# Altium schematic symbol library Main.SCHLIB: 119 symbols
Pins are listed as number, name and electrical type; pins without a type are passive.

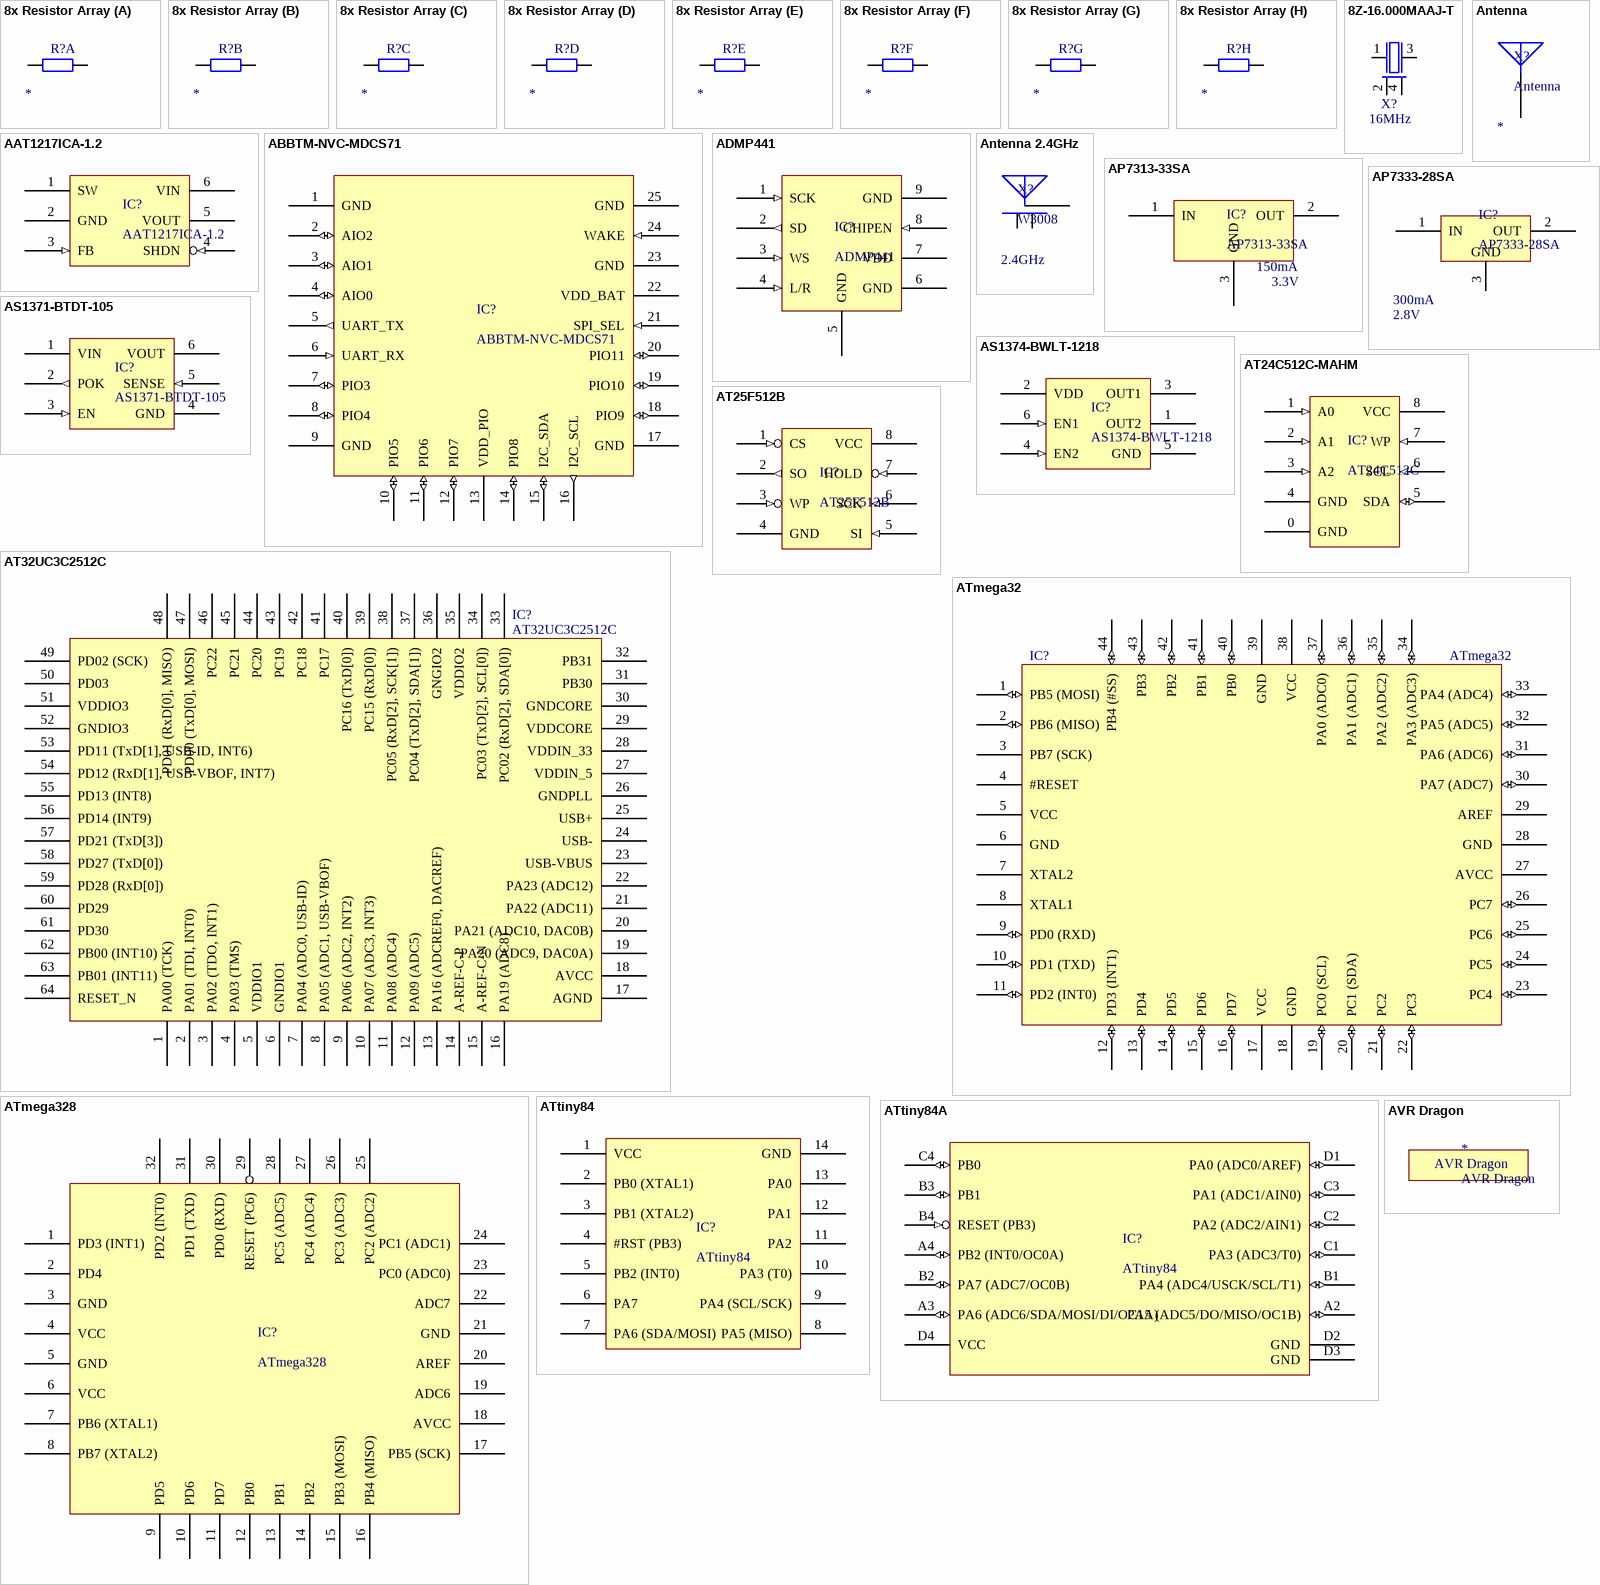
[diagram p0: symbols 8x Resistor Array to AVR Dragon]

## 8x Resistor Array
designator R?  (value not drawn)
Tolerance: *; Value: *
footprint 8x Resistor-Array
part A pins: A1 1, A2 1
part B pins: B1 1, B2 1
part C pins: C1 1, C2 1
part D pins: D1 1, D2 1
part E pins: E1 1, E2 1
part F pins: F1 1, F2 1
part G pins: G1 1, G2 1
part H pins: H1 1, H2 1

## 8Z-16.000MAAJ-T
designator X?  Frequency: 16MHz  (hidden comment: 8Z-16.000MAAJ-T)
Crystal 16MHz; Supplier 1: Mouser; Supplier Part Number 1: 717-8Z-16.000MAAJ-T
footprint CRYSTAL 2MM x 2.5mm
pins: 1, 2 3, 3 2, 4 3

## AAT1217ICA-1.2
designator IC?
Boost Converter; Input Voltage: 1V...5.5V; Output Voltage: 2.5V...5.5V; Current: 100mA - 800mA; Digi-Key: 863-1495-1-ND
footprint SOT-23 (6-pin)
pins: 1 SW (power), 2 GND (power), 3 FB (in), 4 SHDN (in), 5 VOUT (power), 6 VIN (power)

## ABBTM-NVC-MDCS71
designator IC?
Bluetooth v4.0 Module; Voltage: 1.8V...3.6V
footprint Bluetooth v4.0 Mod
pins: 1 GND (power), 2 AIO2 (io), 3 AIO1 (io), 4 AIO0 (io), 5 UART_TX (out), 6 UART_RX (in), 7 PIO3 (io), 8 PIO4 (io), 9 GND (power), 10 PIO5 (io), 11 PIO6 (io), 12 PIO7 (io), 13 VDD_PIO (power), 14 PIO8 (io), 15 I2C_SDA (io), 16 I2C_SCL (out), 17 GND (power), 18 PIO9 (io), 19 PIO10 (io), 20 PIO11 (io), 21 SPI_SEL (in), 22 VDD_BAT (power), 23 GND (power), 24 WAKE (in), 25 GND (power)

## ADMP441
designator IC?
I²S Microphone
footprint ADMP441
pins: 1 SCK (in), 2 SD (out), 3 WS (in), 4 L/R (in), 5 GND, 6 GND (power), 7 VDD (power), 8 CHIPEN (in), 9 GND (power)

## Antenna
designator X?
Frequency: *
pins: 1

## Antenna 2.4GHz
designator X?, comment W3008  Frequency: 2.4GHz
Antenna 2.4GHz; Manufacturer: Pulse Electronics Coorp.; Compliance: Bluetooth; Digi-Key: 553-1530-1-ND
footprint Antenna 3.2x1.6mm (W3008)
pins: 1, 2 (power), 3 (power)

## AP7313-33SA
designator IC?  Current: 150mA  Output Voltage: 3.3V
Low Dropout Regulator 3.3V, 150mA; Manufacturer: Diodes Inc.; Input Voltage: 3.5V...6V; Digi-Key: AP7313-33SAG-7DICT-ND
footprint SOT23
pins: 1 IN (power), 2 OUT (power), 3 GND (power)

## AP7333-28SA
designator IC?  Current: 300mA  Voltage: 2.8V
Low Dropout Regulator 2.8V, 300mA; Manufacturer: Diodes Inc.; Dropout Voltage: 300mV; Input Voltage: 2V ... 6V; Digi-Key: AP7333-28SAG-7DICT-ND
footprint SOT23
pins: 1 IN (power), 2 OUT (power), 3 GND (power)

## AS1371-BTDT-105
designator IC?
Current: 400mA; Supplier 1: Digi-Key; Supplier Part Number 1: AS1371-BTDT-105CT-ND
footprint 0.8-mm × 0.8-mm WCSP
footprint TDFN6
pins: 1 VIN (power), 2 POK (out), 3 EN (in), 4 GND (power), 5 SENSE (in), 6 VOUT (power)

## AS1374-BWLT-1218
designator IC?
Supplier 1: Digi-Key; Supplier Part Number 1: AS1374-BWLT-1218CT-ND
footprint 6-UFBGA
pins: 1 OUT2 (power), 2 VDD (power), 3 OUT1 (power), 4 EN2 (in), 5 GND (power), 6 EN1 (in)

## AT24C512C-MAHM
designator IC?, comment AT24C512C
512kbit I2C EEPROM; Manufacturer: Atmel; Voltage: 1.7V - 3.6V; Speed: 400kHz (1.7V), 1MHz (2.5V); Density: 512kbit (65536 Bytes); Digi-Key: AT24C512C-MAHM-TCT-ND
footprint UDFN-8 (3x2mm)
pins: 0 GND, 1 A0 (in), 2 A1 (in), 3 A2 (in), 4 GND (power), 5 SDA (io), 6 SCL (in), 7 WP (in), 8 VCC (power)

## AT25F512B
designator IC?
512Kbit SPI Flash; Voltage: 2.7V...3.6V; Memory Density: 512Kbit; Digi-Key: AT25F512B-MAH-TADCT-ND
footprint UDFN-8 (3x2mm)
pins: 1 CS (in), 2 SO (out), 3 WP (in), 4 GND (power), 5 SI (in), 6 SCK (in), 7 HOLD (in), 8 VCC (power)

## AT32UC3C2512C
designator IC?
32-Bit AVR Microcontroller; Core: AVR32; Flash: 512kB; RAM: 64kB; Speed: 50MHz; Supplier 1: Digi-Key; Supplier Part Number 1: AT32UC3C2512C-Z2ZRCT-ND
footprint TQFP64
pins: 1 PA00 (TCK), 2 PA01 (TDI, INT0), 3 PA02 (TDO, INT1), 4 PA03 (TMS), 5 VDDIO1, 6 GNDIO1, 7 PA04 (ADC0, USB-ID), 8 PA05 (ADC1, USB-VBOF), 9 PA06 (ADC2, INT2), 10 PA07 (ADC3, INT3), 11 PA08 (ADC4), 12 PA09 (ADC5), 13 PA16 (ADCREF0, DACREF), 14 A-REF-C-P, 15 A-REF-C-N, 16 PA19 (ADC8), 17 AGND, 18 AVCC, 19 PA20 (ADC9, DAC0A), 20 PA21 (ADC10, DAC0B), 21 PA22 (ADC11), 22 PA23 (ADC12), 23 USB-VBUS, 24 USB-, 25 USB+, 26 GNDPLL, 27 VDDIN_5, 28 VDDIN_33, 29 VDDCORE, 30 GNDCORE, 31 PB30, 32 PB31, 33 PC02 (RxD[2], SDA[0]), 34 PC03 (TxD[2], SCL[0]), 35 VDDIO2, 36 GNGIO2, 37 PC04 (TxD[2], SDA[1]), 38 PC05 (RxD[2], SCK[1]), 39 PC15 (RxD[0]), 40 PC16 (TxD[0]), 41 PC17, 42 PC18, 43 PC19, 44 PC20, 45 PC21, 46 PC22, 47 PD00 (TxD[0], MOSI), 48 PD01 (RxD[0], MISO), 49 PD02 (SCK), 50 PD03, 51 VDDIO3, 52 GNDIO3, 53 PD11 (TxD[1], USB-ID, INT6), 54 PD12 (RxD[1], USB-VBOF, INT7), 55 PD13 (INT8), 56 PD14 (INT9), 57 PD21 (TxD[3]), 58 PD27 (TxD[0]), 59 PD28 (RxD[0]), 60 PD29, 61 PD30, 62 PB00 (INT10), 63 PB01 (INT11), 64 RESET_N

## ATmega32
designator IC?
8-Bit AVR Microcontroller; Flash: 32kB; RAM: 2kB; EEPROM: 1024B; Speed: 16MHz; Supplier 1: Mouser; Supplier Part Number 1: 556-ATMEGA32A-AU
footprint TQFP44
pins: 1 PB5 (MOSI) (io), 2 PB6 (MISO) (io), 3 PB7 (SCK), 4 #RESET, 5 VCC (power), 6 GND (power), 7 XTAL2, 8 XTAL1, 9 PD0 (RXD) (io), 10 PD1 (TXD) (io), 11 PD2 (INT0) (io), 12 PD3 (INT1) (io), 13 PD4 (io), 14 PD5 (io), 15 PD6 (io), 16 PD7 (io), 17 VCC (power), 18 GND (power), 19 PC0 (SCL) (io), 20 PC1 (SDA) (io), 21 PC2 (io), 22 PC3 (io), 23 PC4 (io), 24 PC5 (io), 25 PC6 (io), 26 PC7 (io), 27 AVCC (power), 28 GND (power), 29 AREF (power), 30 PA7 (ADC7) (io), 31 PA6 (ADC6) (io), 32 PA5 (ADC5) (io), 33 PA4 (ADC4) (io), 34 PA3 (ADC3) (io), 35 PA2 (ADC2) (io), 36 PA1 (ADC1) (io), 37 PA0 (ADC0) (io), 38 VCC (power), 39 GND (power), 40 PB0 (io), 41 PB1 (io), 42 PB2 (io), 43 PB3 (io), 44 PB4 (#SS) (io)

## ATmega328
designator IC?
8-Bit AVR Microcontroller; Speed: 4MHz @ 1.8V, 10MHz @ 2.7V, 20MHz @  4.5V; RAM: 2kB; EEPROM: 1kB; Flash: 32kB; Digi-Key: ATMEGA88PA-AURCT-ND
footprint TQFP32
pins: 1 PD3 (INT1), 2 PD4, 3 GND, 4 VCC, 5 GND, 6 VCC, 7 PB6 (XTAL1), 8 PB7 (XTAL2), 9 PD5, 10 PD6, 11 PD7, 12 PB0, 13 PB1, 14 PB2, 15 PB3 (MOSI), 16 PB4 (MISO), 17 PB5 (SCK), 18 AVCC, 19 ADC6, 20 AREF, 21 GND, 22 ADC7, 23 PC0 (ADC0), 24 PC1 (ADC1), 25 PC2 (ADC2), 26 PC3 (ADC3), 27 PC4 (ADC4), 28 PC5 (ADC5), 29 RESET (PC6), 30 PD0 (RXD), 31 PD1 (TXD), 32 PD2 (INT0)

## ATtiny84
designator IC?
8-Bit AVR Microcontroller; Flash: 8kB; RAM: 512B; Speed: 16MHz; EEPROM: 512B
footprint SOIC14
pins: 1 VCC, 2 PB0 (XTAL1), 3 PB1 (XTAL2), 4 #RST (PB3), 5 PB2 (INT0), 6 PA7, 7 PA6 (SDA/MOSI), 8 PA5 (MISO), 9 PA4 (SCL/SCK), 10 PA3 (T0), 11 PA2, 12 PA1, 13 PA0, 14 GND

## ATtiny84A
designator IC?, comment ATtiny84
footprint UFBGA15
pins: A2 PA5 (ADC5/DO/MISO/OC1B) (io), A3 PA6 (ADC6/SDA/MOSI/DI/OC1A) (io), A4 PB2 (INT0/OC0A) (io), B1 PA4 (ADC4/USCK/SCL/T1) (io), B2 PA7 (ADC7/OC0B) (io), B3 PB1 (io), B4 RESET (PB3) (in), C1 PA3 (ADC3/T0) (io), C2 PA2 (ADC2/AIN1) (io), C3 PA1 (ADC1/AIN0) (io), C4 PB0 (io), D1 PA0 (ADC0/AREF) (io), D2 GND (power), D3 GND (power), D4 VCC (power)

## AVR Dragon
designator *  (graphical)
AVR Programmer; Supplier 1: Mouser; Supplier Part Number 1: 556-ATAVRDRAGON

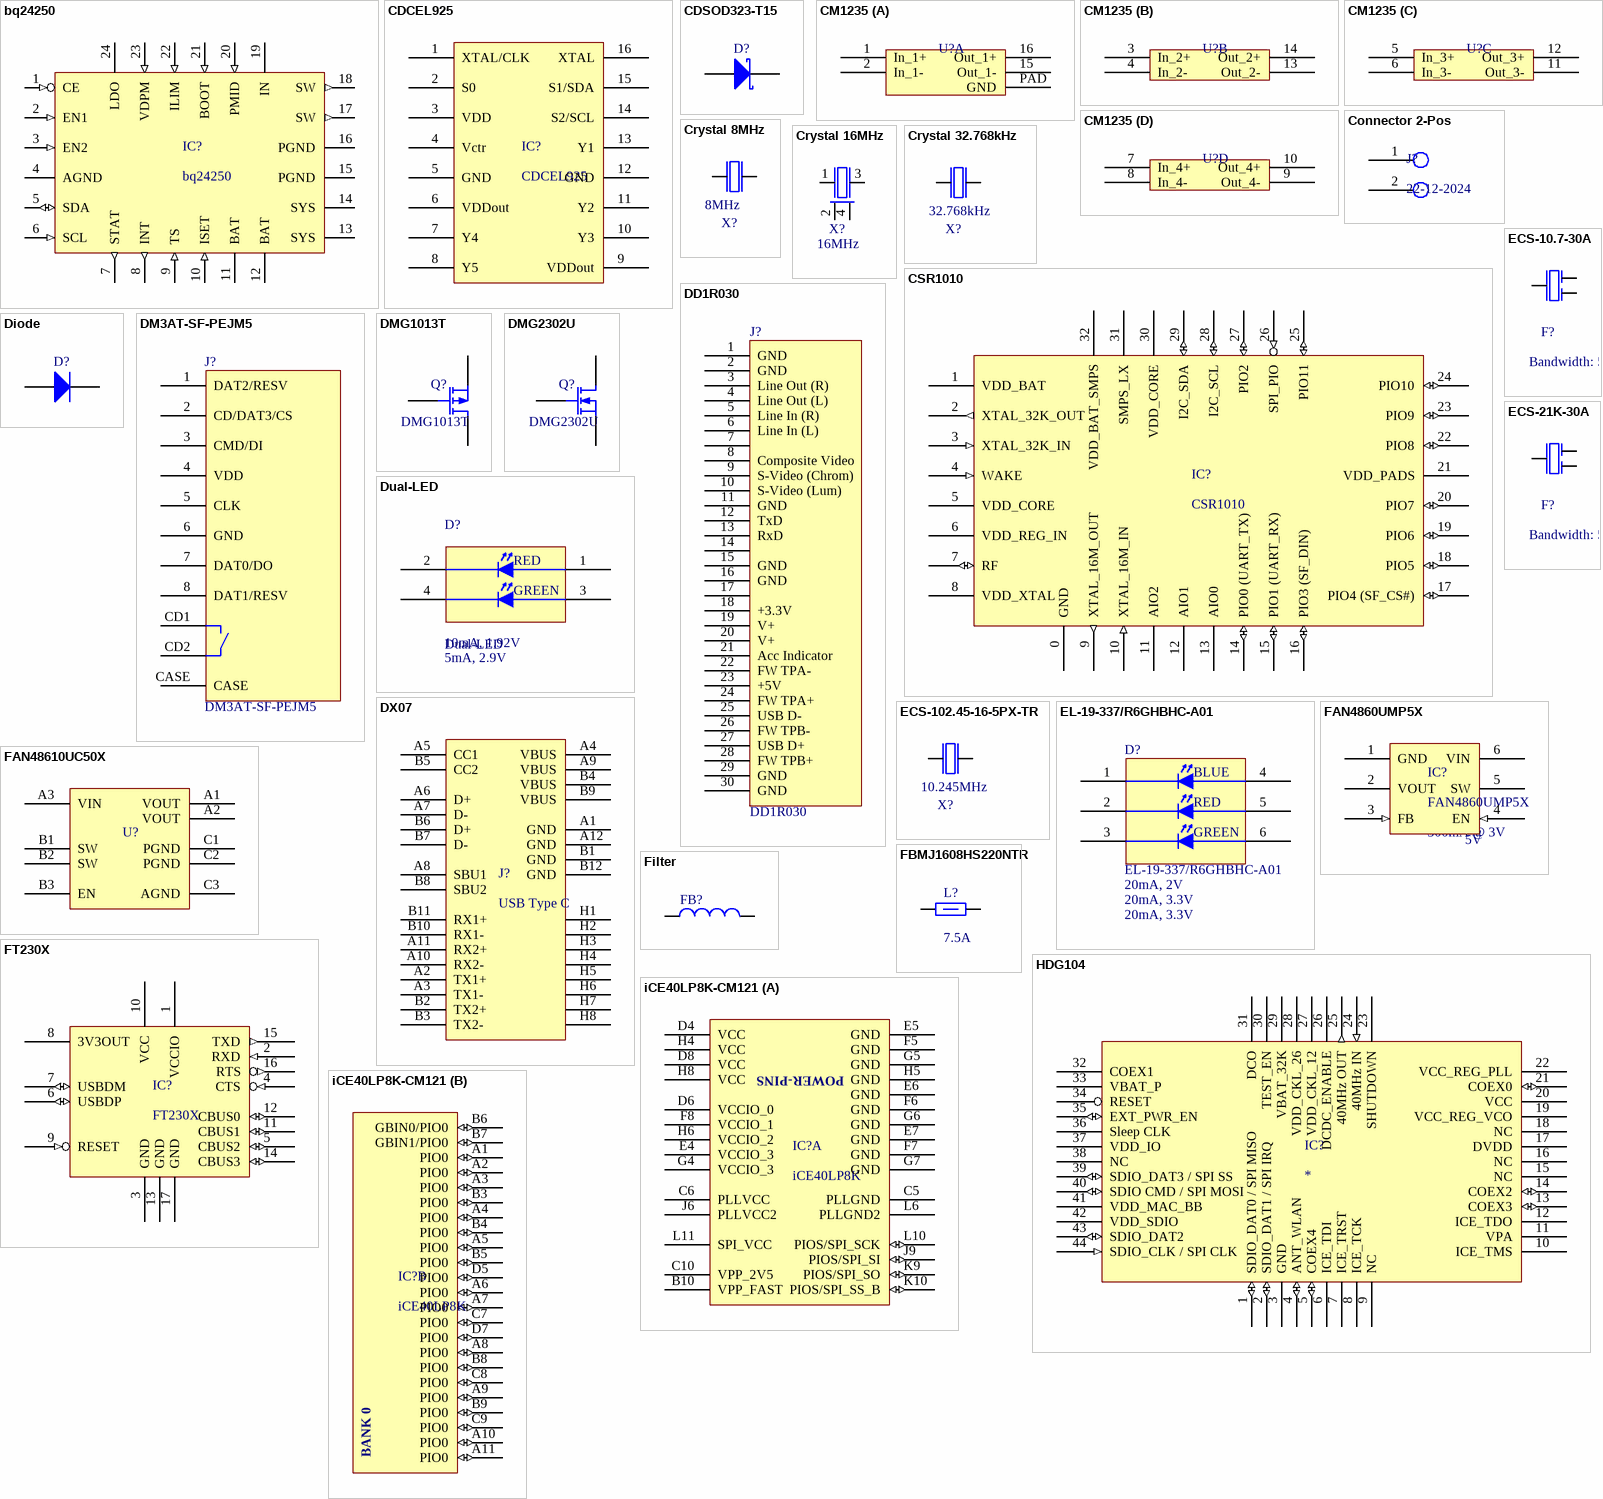
[diagram p1: symbols bq24250 to iCE40LP8K-CM121]

## bq24250
designator IC?
LiPo Chargering Regulator with Step-Down Converter; Max Charging Current: 2A; Digi-Key: 296-36446-1-ND
footprint QFN-24 (4x4mm)
pins: 1 CE (in), 2 EN1 (in), 3 EN2 (in), 4 AGND (power), 5 SDA (io), 6 SCL (in), 7 STAT (out), 8 INT (out), 9 TS (in), 10 ISET (in), 11 BAT (power), 12 BAT (power), 13 SYS (power), 14 SYS (power), 15 PGND (power), 16 PGND (power), 17 SW (out), 18 SW (out), 19 IN (power), 20 PMID (in), 21 BOOT (in), 22 ILIM (in), 23 VDPM (in), 24 LDO (power)

## CDCEL925
designator IC?
Dual PLL 230MHz; Voltage: 1.8V; VCO freq: 80MHz - 230MHz; Reference Crystal: 8MHz - 32MHz; Digi-Key: 296-22882-5-ND
footprint TSSOP16
pins: 1 XTAL/CLK, 2 S0, 3 VDD, 4 Vctr, 5 GND, 6 VDDout, 7 Y4, 8 Y5, 9 VDDout, 10 Y3, 11 Y2, 12 GND, 13 Y1, 14 S2/SCL, 15 S1/SDA, 16 XTAL

## CDSOD323-T15
designator D?  (value not drawn)
Schottky Diode; Published: 8-Jun-2000; LatestRevisionDate: 17-Jul-2002; LatestRevisionNote: Re-released for DXP Platform.; PackageReference: SMB; Publisher: Altium Limited; PackageDescription: DO-214-AA/SMB; 2 C-Bend Leads; Body 5.3 x 3.6 mm, inc. leads (LxW); Code_JEDEC: DO-214-AA; Supplier 1: Mouser; Supplier Part Number 1: 652-CDSOD323-T15
simulation model SKYDIODE (Diode)
signal-integrity model D Schottky
footprint 0805 (D); pin to pad 1>A 2>K
footprint 1.4mm x 1.9mm (D); pin to pad 1>A 2>K
pins: 1 A, 2 K

## CM1235
designator U?  (value not drawn)
ESD Protection; Max Voltage: 5.5V; Supplier 1: Digi-Key; Supplier Part Number 1: CM1235-08DEOSCT-ND
footprint WDFN-16 (4mmx1.7mm)
part A pins: 1 In_1+, 2 In_1-, 15 Out_1-, 16 Out_1+, PAD GND (power)
part B pins: 3 In_2+, 4 In_2-, 13 Out_2-, 14 Out_2+
part C pins: 5 In_3+, 6 In_3-, 11 Out_3-, 12 Out_3+
part D pins: 7 In_4+, 8 In_4-, 9 Out_4-, 10 Out_4+

## Connector 2-Pos
designator J?, comment 22-12-2024
Connector 2-Pos 2.54mm Pitch; Digi-Key: WM2711-ND
footprint Conn 2-Pos 2.54mm Pitch
pins: 1, 2

## Crystal 8MHz
designator X?, comment Frequency: 8MHz  (hidden comment: 7A-8.000MAAE)
Crystal 10.245MHz; Load Capacitance: 12pF; Digi-Key: 887-1740-1-ND
footprint Crystal
pins: 1, 2

## Crystal 16MHz
designator X?, comment Frequency: 16MHz  (hidden comment: 8Y-16.000MAAV-T)
Crystal 16MHz; Load Capacitance: 8pF; Digi-Key: 887-2003-1-ND
footprint Crystal 1.6mm x 2mm
pins: 1, 2 3, 3 2, 4 3

## Crystal 32.768kHz
designator X?, comment Frequency: 32.768kHz  (hidden comment: ABS05-32.768KHZ-9-T)
Crystal 32.768kHz; Load Capacitance: 9pF; Digi-Key: 535-11897-1-ND
footprint Crystal 1mm x 1.6mm
pins: 1, 2

## CSR1010
designator IC?
Bluetooth v4.0 Low Energy Chip; Digi-Key: CSR1010A05-IQQM-RCT-ND
footprint QFN-32 (5x5mm)
pins: 0 GND (power), 1 VDD_BAT (power), 2 XTAL_32K_OUT (out), 3 XTAL_32K_IN (in), 4 WAKE (in), 5 VDD_CORE (power), 6 VDD_REG_IN (power), 7 RF (io), 8 VDD_XTAL (power), 9 XTAL_16M_OUT (out), 10 XTAL_16M_IN (in), 11 AIO2, 12 AIO1, 13 AIO0, 14 PIO0 (UART_TX) (io), 15 PIO1 (UART_RX) (io), 16 PIO3 (SF_DIN) (io), 17 PIO4 (SF_CS#) (io), 18 PIO5 (io), 19 PIO6 (io), 20 PIO7 (io), 21 VDD_PADS (power), 22 PIO8 (io), 23 PIO9 (io), 24 PIO10 (io), 25 PIO11 (io), 26 SPI_PIO (in), 27 PIO2 (io), 28 I2C_SCL (io), 29 I2C_SDA (io), 30 VDD_CORE (power), 31 SMPS_LX (power), 32 VDD_BAT_SMPS (power)

## DD1R030
designator J?
30-Pin Dock Connector Receptacle; 1A: Current; Supplier 1: Mouser; Supplier Part Number 1: 656-DD1R030HA1R1300
footprint DD1R030HA1
pins: 1 GND, 2 GND, 3 Line Out (R), 4 Line Out (L), 5 Line In (R), 6 Line In (L), 7, 8 Composite Video, 9 S-Video (Chrom), 10 S-Video (Lum), 11 GND, 12 TxD, 13 RxD, 14, 15 GND, 16 GND, 17, 18 +3.3V, 19 V+, 20 V+, 21 Acc Indicator, 22 FW TPA-, 23 +5V, 24 FW TPA+, 25 USB D-, 26 FW TPB-, 27 USB D+, 28 FW TPB+, 29 GND, 30 GND

## Diode
designator D?, comment 1N4148W  (value not drawn)
Diode; Forward Voltage: 1.25V; Current: 150mA; Digi-Key: 1N4148W-FDICT-ND
footprint SOD123
footprint SOD923
pins: A, K

## DM3AT-SF-PEJM5
designator J?
microSD Slot; Supplier 1: Mouser; Supplier Part Number 1: 798-DM3AT-SF-PEJM5
footprint microSD Slot
pins: 1 DAT2/RESV, 2 CD/DAT3/CS, 3 CMD/DI, 4 VDD, 5 CLK, 6 GND, 7 DAT0/DO, 8 DAT1/RESV, CASE, CD1 9, CD2 10

## DMG1013T
designator Q?
MOSFET P-Channel; Manufacturer: Diodes Inc.; GS Threshold Voltage: -1.8V; Current: -430mA (Vgs = 2.5V)
footprint SOT523
pins: 1 G, 2 S, 3 D

## DMG2302U
designator Q?
MOSFET N-Channel; Manufacturer: Diodes Inc.; GS Threshold Voltage: 1V; Current: 3.4A (Vgs = 1.5V); Digi-Key: DMG2302U-7DICT-ND
footprint SOT23
pins: 1 G, 2 S, 3 D

## Dual-LED
designator D?  R-specs: 10mA, 1.92V  G-specs: 5mA, 2.9V
Red/Green LED; Color: RGB; B-specs: 20mA, 3.3V; Supplier 1: Mouser; Supplier Part Number 1: 638-19337R6GHBHC-A01
footprint DUALLED
pins: 1, 2, 3, 4
text: RED; GREEN

## DX07
designator J?, comment USB Type C
USB Type C Receptacle; Supplier 1: Digi-Key; Supplier Part Number 1: 670-2794-1-ND
footprint DX07S024JJ2
pins: A1 GND (power), A2 TX1+, A3 TX1-, A4 VBUS (power), A5 CC1, A6 D+, A7 D-, A8 SBU1, A9 VBUS (power), A10 RX2-, A11 RX2+, A12 GND (power), B1 GND (power), B2 TX2+, B3 TX2-, B4 VBUS (power), B5 CC2, B6 D+, B7 D-, B8 SBU2, B9 VBUS (power), B10 RX1-, B11 RX1+, B12 GND (power), H1, H2, H3, H4, H5, H6, H7, H8

## ECS-10.7-30A
designator F?  Bandwidth: 50kHz  (hidden comment: ECS-10.7-30A)
Crystal Filter 10.7MHz; Passband: 30kHz; Impedance: 5 kOhm; Digi-Key: X705-ND
footprint HC-49/U
pins: 1, 2 3, 3 2

## ECS-21K-30A
designator F?  Bandwidth: 50kHz  (hidden comment: ECS-21K-30A)
Crystal Filter 21.4MHz; Passband: 30kHz; Impedance: 1.5 kOhm; Digi-Key: X711-ND
footprint UM-1
pins: 1, 2 3, 3 2

## ECS-102.45-16-5PX-TR
designator X?  Frequency: 10.245MHz  (hidden comment: ECS-102.45-16-5PX-TR)
Crystal 10.245MHz; Load Capacitance: 16pF; Digi-Key: XC1004CT-ND
footprint HC-49/US
pins: 1, 2

## EL-19-337/R6GHBHC-A01
designator D?  R-specs: 20mA, 2V  G-specs: 20mA, 3.3V
RGB LED; Supplier 1: Mouser; Supplier Part Number 1: 638-19337R6GHBHC-A01; Color: RGB; B-specs: 20mA, 3.3V
footprint RGB-LED
pins: 1, 2, 3, 4, 5, 6
text: BLUE; RED; GREEN

## FAN4860UMP5X
designator IC?  Current: 300mA @ 3V  Output Voltage: 5V
Boost Converter 5V; Input Voltage: 2.3V...4.5V; Digi-Key: FAN4860UMP5XCT-ND
footprint 6-UMLP
pins: 1 GND (power), 2 VOUT (power), 3 FB (in), 4 EN (in), 5 SW (power), 6 VIN (power)

## FAN48610UC50X
designator U?  (value not drawn)
Boost Regulator 5V
footprint WLCSP-6 (1.2mm x 1.2mm)
pins: A1 VOUT (power), A2 VOUT (power), A3 VIN (power), B1 SW, B2 SW, B3 EN, C1 PGND, C2 PGND, C3 AGND

## FBMJ1608HS220NTR
designator L?  Current: 7.5A  (hidden comment: FBMJ1608HS220NTR)
Ferrit Bead 7.5A; DC Resistance: 4mOhm (max); Impedance @ 100MHz: 22 Ohm; Digi-Key: 587-3253-1-ND
footprint 0603 (L)
pins: 1, 2

## Filter
designator FB?, comment MMZ1005Y152C  (value not drawn)  (net tie, no BOM)
HF Filter; Digi-Key: 445-2158-1-ND
footprint 0402 (R)
pins: 1, 2

## FT230X
designator IC?
USB-UART Bridge; Voltage: 3V...5.5V; I/O Voltage: 1.62V...3.63V; Digi-Key: 768-1130-1-ND
footprint QFN-16 (4x4mm)
pins: 1 VCCIO (power), 2 RXD (in), 3 GND, 4 CTS (in), 5 CBUS2 (io), 6 USBDP (io), 7 USBDM (io), 8 3V3OUT (power), 9 RESET (in), 10 VCC (power), 11 CBUS1 (io), 12 CBUS0 (io), 13 GND (power), 14 CBUS3 (io), 15 TXD (out), 16 RTS (out), 17 GND

## HDG104
designator IC?
footprint HDG104
pins: 1 SDIO_DAT0 / SPI MISO (io), 2 SDIO_DAT1 / SPI IRQ (io), 3 GND (power), 4 ANT_WLAN (io), 5 COEX4 (io), 6 ICE_TDI, 7 ICE_TRST, 8 ICE_TCK, 9 NC, 10 ICE_TMS, 11 VPA (power), 12 ICE_TDO, 13 COEX3 (io), 14 COEX2 (io), 15 NC, 16 NC, 17 DVDD (power), 18 NC, 19 VCC_REG_VCO, 20 VCC (power), 21 COEX0 (io), 22 VCC_REG_PLL, 23 SHUTDOWN, 24 40MHz IN (in), 25 40MHz OUT (out), 26 DCDC_ENABLE, 27 VDD_CKL_12, 28 VDD_CKL_26, 29 VBAT_32K, 30 TEST_EN, 31 DCO, 32 COEX1, 33 VBAT_P, 34 RESET, 35 EXT_PWR_EN (io), 36 Sleep CLK, 37 VDD_IO (power), 38 NC, 39 SDIO_DAT3 / SPI SS (io), 40 SDIO CMD / SPI MOSI (io), 41 VDD_MAC_BB (power), 42 VDD_SDIO (power), 43 SDIO_DAT2 (io), 44 SDIO_CLK / SPI CLK (in), 45 GND (power) hidden to GND

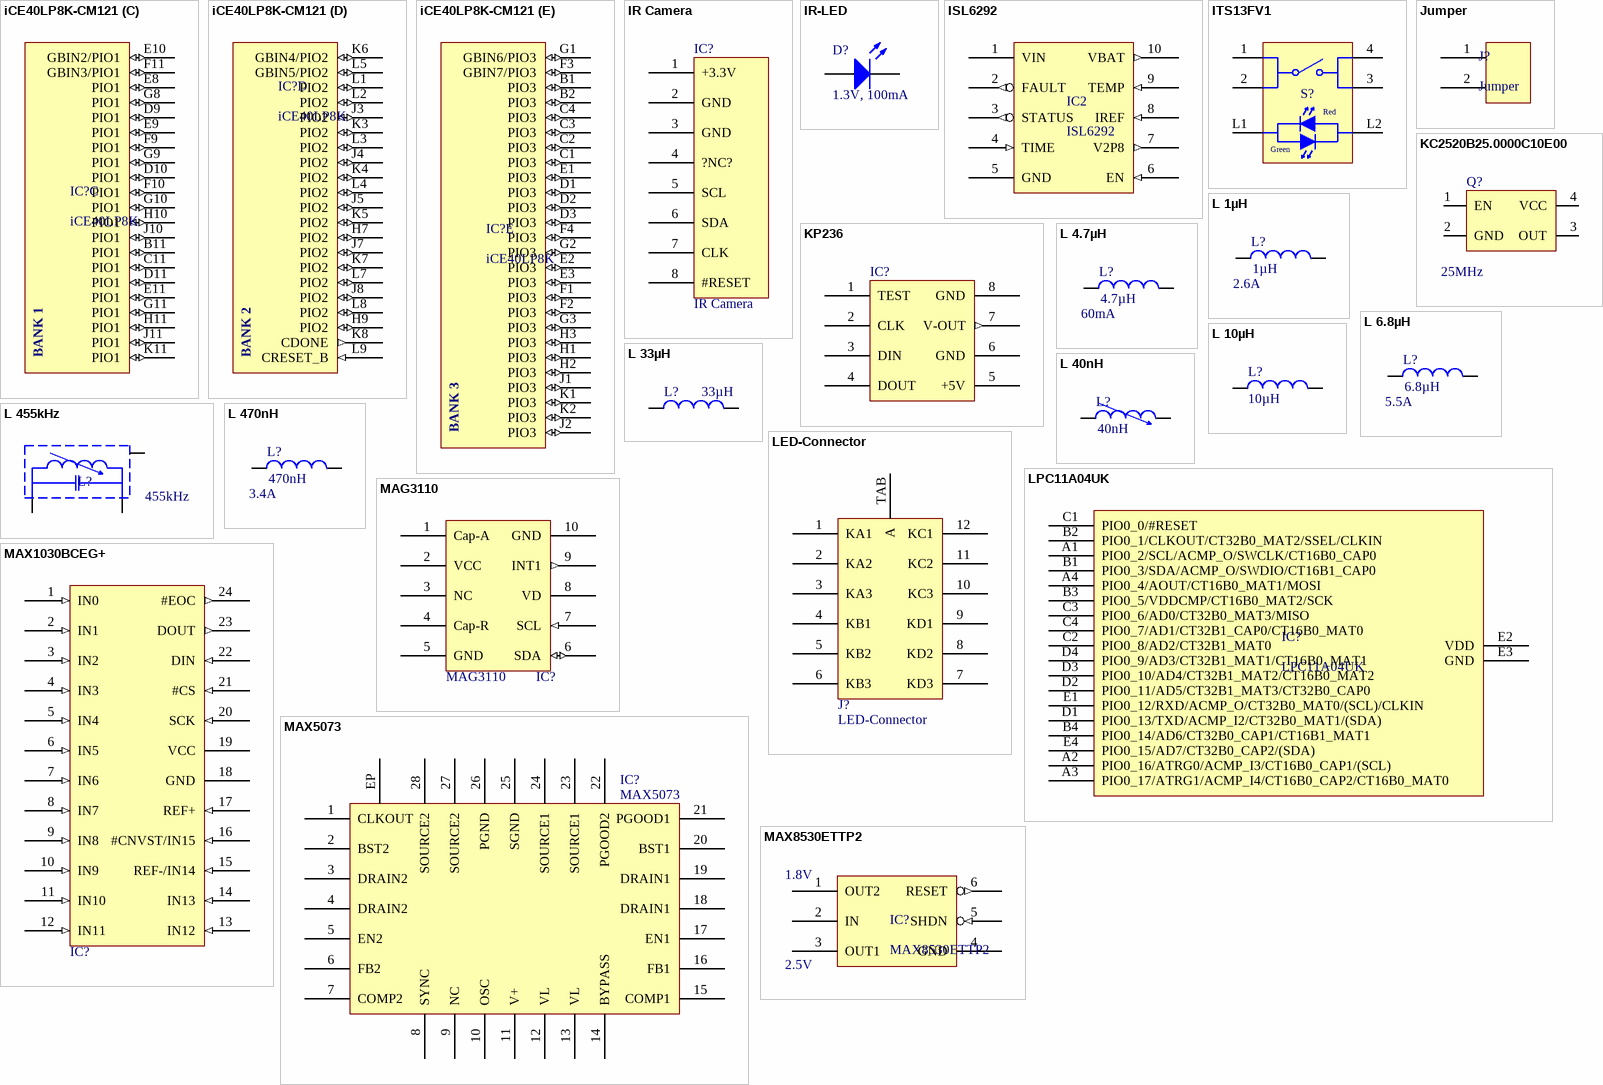
[diagram p2: symbols iCE40LP8K-CM121 to MAX8530ETTP2]

## iCE40LP8K-CM121
designator IC?, comment iCE40LP8K
Lattice iCE40 FPGA 8kLUTs
footprint CM121
part A pins: B10 VPP_FAST (power), C5 PLLGND (power), C6 PLLVCC (power), C10 VPP_2V5 (power), D4 VCC (power), D6 VCCIO_0 (power), D8 VCC (power), E4 VCCIO_3 (power), E5 GND (power), E6 GND (power), E7 GND (power), F5 GND (power), F6 GND (power), F7 GND (power), F8 VCCIO_1 (power), G4 VCCIO_3 (power), G5 GND (power), G6 GND (power), G7 GND (power), H4 VCC (power), H5 GND (power), H6 VCCIO_2 (power), H8 VCC (power), J6 PLLVCC2 (power), J9 PIOS/SPI_SI (io), K9 PIOS/SPI_SO (io), K10 PIOS/SPI_SS_B (io), L6 PLLGND2 (power), L10 PIOS/SPI_SCK (io), L11 SPI_VCC (power)
part B pins: A1 PIO0 (io), A2 PIO0 (io), A3 PIO0 (io), A4 PIO0 (io), A5 PIO0 (io), A6 PIO0 (io), A7 PIO0 (io), A8 PIO0 (io), A9 PIO0 (io), A10 PIO0 (io), A11 PIO0 (io), B3 PIO0 (io), B4 PIO0 (io), B5 PIO0 (io), B6 GBIN0/PIO0 (io), B7 GBIN1/PIO0 (io), B8 PIO0 (io), B9 PIO0 (io), C7 PIO0 (io), C8 PIO0 (io), C9 PIO0 (io), D5 PIO0 (io), D7 PIO0 (io)
part C pins: B11 PIO1 (io), C11 PIO1 (io), D9 PIO1 (io), D10 PIO1 (io), D11 PIO1 (io), E8 PIO1 (io), E9 PIO1 (io), E10 GBIN2/PIO1 (io), E11 PIO1 (io), F9 PIO1 (io), F10 PIO1 (io), F11 GBIN3/PIO1 (io), G8 PIO1 (io), G9 PIO1 (io), G10 PIO1 (io), G11 PIO1 (io), H10 PIO1 (io), H11 PIO1 (io), J10 PIO1 (io), J11 PIO1 (io), K11 PIO1 (io)
part D pins: H7 PIO2 (io), H9 PIO2 (io), J3 PIO2 (io), J4 PIO2 (io), J5 PIO2 (io), J7 PIO2 (io), J8 PIO2 (io), K3 PIO2 (io), K4 PIO2 (io), K5 PIO2 (io), K6 GBIN4/PIO2 (io), K7 PIO2 (io), K8 CDONE (out), L1 PIO2 (io), L2 PIO2 (io), L3 PIO2 (io), L4 PIO2 (io), L5 GBIN5/PIO2 (io), L7 PIO2 (io), L8 PIO2 (io), L9 CRESET_B (in)
part E pins: B1 PIO3 (io), B2 PIO3 (io), C1 PIO3 (io), C2 PIO3 (io), C3 PIO3 (io), C4 PIO3 (io), D1 PIO3 (io), D2 PIO3 (io), D3 PIO3 (io), E1 PIO3 (io), E2 PIO3 (io), E3 PIO3 (io), F1 PIO3 (io), F2 PIO3 (io), F3 GBIN7/PIO3 (io), F4 PIO3 (io), G1 GBIN6/PIO3 (io), G2 PIO3 (io), G3 PIO3 (io), H1 PIO3 (io), H2 PIO3 (io), H3 PIO3 (io), J1 PIO3 (io), J2 PIO3 (io), K1 PIO3 (io), K2 PIO3 (io)
part A text: POWER-PINS
part B text: BANK 0
part C text: BANK 1
part D text: BANK 2
part E text: BANK 3

## IR Camera
designator IC?
Nitendo Wiimote IR Camera
footprint IR CAMERA
pins: 1 +3.3V, 2 GND, 3 GND, 4 ?NC?, 5 SCL, 6 SDA, 7 CLK, 8 #RESET

## IR-LED
designator D?, comment specs: 1.3V, 100mA  (hidden comment: SFH 4512)
IR-LED; Wavelength: 950nm; Luminous Intensity: 20mW/sr @ 100mA; Digi-Key: 475-2943-ND
footprint LED Through-Hole
pins: A, K

## ISL6292
designator IC2
2A Linear LiPo Charger
pins: 1 VIN (power), 2 FAULT (out), 3 STATUS (out), 4 TIME (in), 5 GND (power), 6 EN (in), 7 V2P8 (out), 8 IREF (in), 9 TEMP (in), 10 VBAT (out)

## ITS13FV1
designator S?  (value not drawn)
Through-Hole Tactile Switch; Cap: 400EB0000; Digi-Key: CKN10442-ND
footprint Switch Through-Hole
pins: 1, 2, 3, 4, L1, L2
text: Red; Green

## Jumper
designator J?
0805 SMD Solder Jumper
footprint 0805 (Jumper) (Solder Jumper, 2-Leads)
pins: 1, 2

## KC2520B25.0000C10E00
designator Q?  Frequency: 25MHz  (hidden comment: KC2520B25.0000C10E00)
Clock Oscillator 25MHz; Supplier 1: Mouser; Supplier Part Number 1: 581-KC2520B25.0C10
footprint OSCILLATOR
pins: 1 EN, 2 GND, 3 OUT, 4 VCC

## KP236
designator IC?  (value not drawn)
Altimeter; Range: 40kPa - 115kPa; Supplier 1: Mouser; Supplier Part Number 1: 726-KP236
footprint PG-DSOF-8-16
pins: 1 TEST, 2 CLK, 3 DIN, 4 DOUT, 5 +5V (power), 6 GND (power) "It is recommended to connect both GND pins.", 7 V-OUT (out), 8 GND (power) "It is recommended to connect both GND pins."

## L 1µH
designator L?  value 1µH  Current: 2.6A  (hidden comment: L 1µH)
Inductor 1µH; Digi-Key: 541-1388-1-ND
footprint Inductor 2x2.5mm
pins: 1, 2

## L 4.7µH
designator L?  value 4.7µH  Current: 60mA  (hidden comment: L 4.7µH)
Inductor 4.7µH; Digi-Key: 445-3165-1-ND
footprint 0603 (L)
pins: 1, 2

## L 6.8µH
designator L?  value 6.8µH  Rated Current: 5.5A  (hidden comment: L 6.8µH)
Inductor 6.8µH; Saturation Current: 7.5A; DC Resistance: 23.3mOhm; Digi-Key: 732-4182-1-ND
footprint Inductor (8.4mm x 7.9mm)
pins: 1, 2

## L 10µH
designator L?  value 10µH  (hidden comment: L 10µH)
Inductor 10µH; Code_IEC: 1005; Published: 8-Jun-2000; LatestRevisionDate: 29-May-2009; LatestRevisionNote: IPC-7351 Footprint Added.; PackageReference: 0402-A; Publisher: Altium Limited; PackageDescription: Chip Inductor; Code_JEITA: 0402; Supplier 1: Mouser; Supplier Part Number 1: 652-SRN6045-100M
footprint 2029 (Chip Inductor, Body 2.0x1.2mm, IPC High Density)
footprint 0603 (Chip Inductor, Body 0.6x0.3mm, IPC High Density)
footprint INDC3216 (Chip Inductor, Body 3.2x1.6mm, IPC High Density)
footprint INDC4532 (Chip Inductor, Body 4.5x3.2mm, IPC High Density)
simulation model INDUCTOR (Inductor)
signal-integrity model Inductor
footprint INDUCTOR
pins: 1, 2

## L 33µH
designator L?  value 33µH  (hidden comment: L 33µH)
Inductor 33µH; Code_IEC: 1005; Published: 8-Jun-2000; LatestRevisionDate: 29-May-2009; LatestRevisionNote: IPC-7351 Footprint Added.; PackageReference: 0402-A; Publisher: Altium Limited; PackageDescription: Chip Inductor; Code_JEITA: 0402; Supplier 1: Mouser; Supplier Part Number 1: 652-SRN6045-330M
footprint INDC1608L (Chip Inductor, Body 1.6x0.8mm, IPC High Density)
footprint 2029 (Chip Inductor, Body 2.0x1.2mm, IPC High Density)
footprint 0603 (Chip Inductor, Body 0.6x0.3mm, IPC High Density)
footprint INDC3216 (Chip Inductor, Body 3.2x1.6mm, IPC High Density)
footprint INDC4532 (Chip Inductor, Body 4.5x3.2mm, IPC High Density)
simulation model INDUCTOR (Inductor)
signal-integrity model Inductor
footprint INDUCTOR
pins: 1, 2

## L 40nH
designator L?  value 40nH  (hidden comment: L 40nH)
Inductor 40nH; Code_IEC: 1005; Published: 8-Jun-2000; LatestRevisionDate: 29-May-2009; LatestRevisionNote: IPC-7351 Footprint Added.; PackageReference: 0402-A; Publisher: Altium Limited; PackageDescription: Chip Inductor; Code_JEITA: 0402; Digi-Key: TK2715-ND
footprint E526HN
pins: 1, 2

## L 455kHz
designator L?  Frequency: 455kHz  (hidden comment: L 455kHz)
Inductor 455kHz; Order: http://www.rf-microwave.com/eng/catalog_view_item/0/211-455-khz-55-mhz-107-mhz-if-coils-transformers/2532-B-455-D-7-B.html
footprint 7mm Coil
pins: 1, 2, CASE

## L 470nH
designator L?  value 470nH  Current: 3.4A  (hidden comment: L 470nH)
Inductor 470nH; Digi-Key: 490-10606-1-ND
footprint 0806 (L) (Chip Resistor, 2-Leads, Body 2.0x1.3mm, IPC Low Density)
pins: 1, 2

## LED-Connector
designator J?
12+1-Pin Solder Pad Array
footprint LED-Connector
pins: 1 KA1, 2 KA2, 3 KA3, 4 KB1, 5 KB2, 6 KB3, 7 KD3, 8 KD2, 9 KD1, 10 KC3, 11 KC2, 12 KC1, TAB A

## LPC11A04UK
designator IC?
32-Bit ARM Cortex-M0 Microcontroller w/ 32kB Flash, 8kB RAM
footprint WLCSP20
pins: A1 PIO0_2/SCL/ACMP_O/SWCLK/CT16B0_CAP0, A2 PIO0_16/ATRG0/ACMP_I3/CT16B0_CAP1/(SCL), A3 PIO0_17/ATRG1/ACMP_I4/CT16B0_CAP2/CT16B0_MAT0, A4 PIO0_4/AOUT/CT16B0_MAT1/MOSI, B1 PIO0_3/SDA/ACMP_O/SWDIO/CT16B1_CAP0, B2 PIO0_1/CLKOUT/CT32B0_MAT2/SSEL/CLKIN, B3 PIO0_5/VDDCMP/CT16B0_MAT2/SCK, B4 PIO0_14/AD6/CT32B0_CAP1/CT16B1_MAT1, C1 PIO0_0/#RESET, C2 PIO0_8/AD2/CT32B1_MAT0, C3 PIO0_6/AD0/CT32B0_MAT3/MISO, C4 PIO0_7/AD1/CT32B1_CAP0/CT16B0_MAT0, D1 PIO0_13/TXD/ACMP_I2/CT32B0_MAT1/(SDA), D2 PIO0_11/AD5/CT32B1_MAT3/CT32B0_CAP0, D3 PIO0_10/AD4/CT32B1_MAT2/CT16B0_MAT2, D4 PIO0_9/AD3/CT32B1_MAT1/CT16B0_MAT1, E1 PIO0_12/RXD/ACMP_O/CT32B0_MAT0/(SCL)/CLKIN, E2 VDD (power), E3 GND (power), E4 PIO0_15/AD7/CT32B0_CAP2/(SDA)

## MAG3110
designator IC?
3-Axis Magnetometer; Supplier 1: Mouser; Supplier Part Number 1: 841-MAG3110FCR1
footprint DFN10
pins: 1 Cap-A, 2 VCC (power), 3 NC, 4 Cap-R, 5 GND (power), 6 SDA (io), 7 SCL (in), 8 VD, 9 INT1 (out), 10 GND (power)

## MAX1030BCEG+
designator IC?  (value not drawn)
16-Channel 10 Bit ADC; Supplier 1: Mouser; Supplier Part Number 1: 700-MAX1030BCEG
footprint QSOP24
pins: 1 IN0 (in), 2 IN1 (in), 3 IN2 (in), 4 IN3 (in), 5 IN4 (in), 6 IN5 (in), 7 IN6 (in), 8 IN7 (in), 9 IN8 (in), 10 IN9 (in), 11 IN10 (in), 12 IN11 (in), 13 IN12 (in), 14 IN13 (in), 15 REF-/IN14 (in), 16 #CNVST/IN15 (in), 17 REF+ (in), 18 GND (power), 19 VCC (power), 20 SCK (in), 21 #CS (in), 22 DIN (in), 23 DOUT (out), 24 #EOC (out)

## MAX5073
designator IC?
Dual Buck/Boost Converter; Supplier 1: Mouser; Supplier Part Number 1: 700-MAX5073ATI
footprint TQFP28
pins: 1 CLKOUT, 2 BST2, 3 DRAIN2, 4 DRAIN2, 5 EN2, 6 FB2, 7 COMP2, 8 SYNC, 9 NC, 10 OSC, 11 V+, 12 VL, 13 VL, 14 BYPASS, 15 COMP1, 16 FB1, 17 EN1, 18 DRAIN1, 19 DRAIN1, 20 BST1, 21 PGOOD1, 22 PGOOD2, 23 SOURCE1, 24 SOURCE1, 25 SGND, 26 PGND, 27 SOURCE2, 28 SOURCE2, EP

## MAX8530ETTP2
designator IC?  Output 1 Voltage: 2.5V  Output 2 Voltage: 1.8V
Low Dropout Regulator 2.5V 200mA, 1.8V 100mA; Dropout Voltage: 100mV; Maximum Input Voltage: 6.5V; Output 1 Current: 200mA; Output 2 Current: 100mA
footprint TDFN6 (3mm x 3mm)
pins: 1 OUT2 (power), 2 IN (power), 3 OUT1 (power), 4 GND (power), 5 SHDN (in), 6 RESET (out)

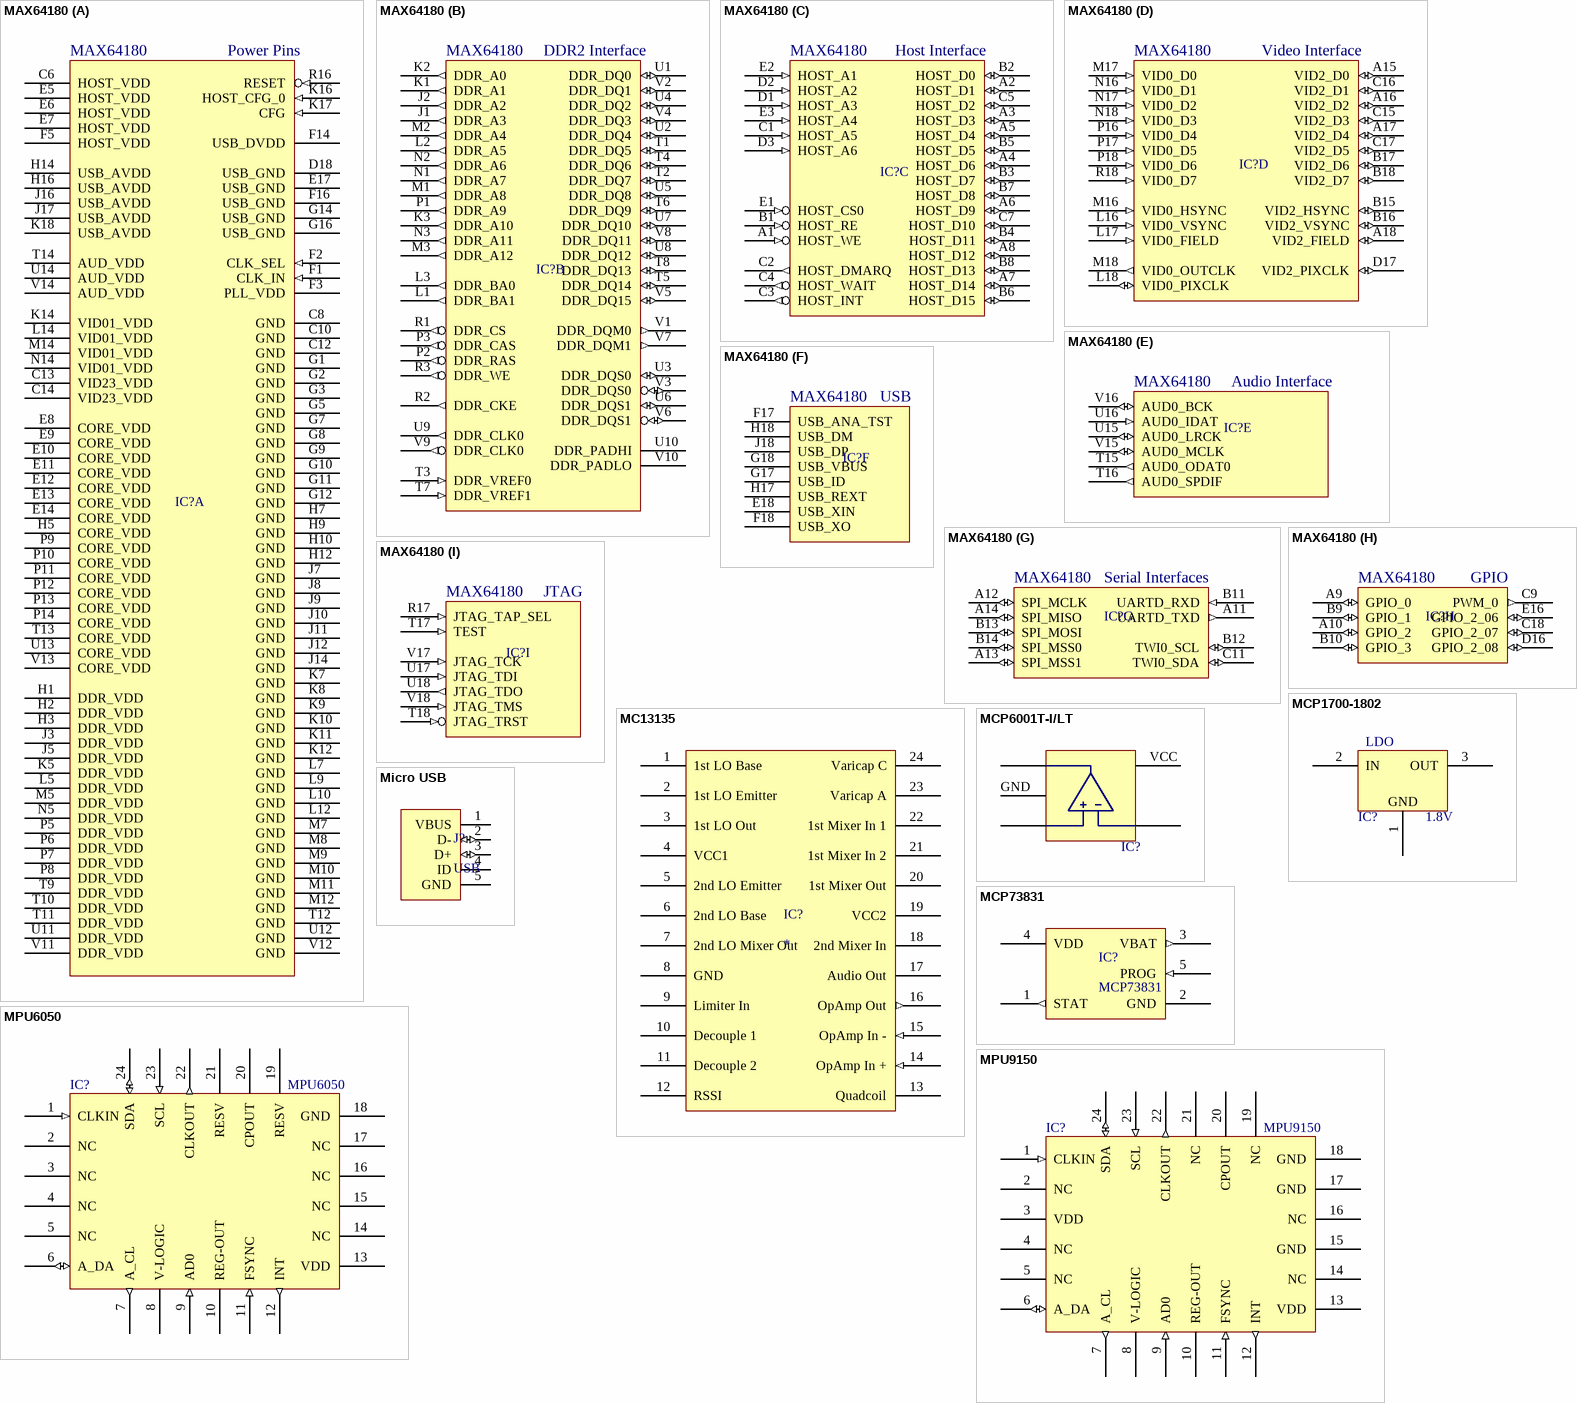
[diagram p3: symbols MAX64180 to MPU9150]

## MAX64180
designator IC?  (value not drawn)
Video Codec with ARM Core
footprint CTBGA-248
part A pins: C6 HOST_VDD (power), C8 GND (power), C10 GND (power), C12 GND (power), C13 VID23_VDD (power), C14 VID23_VDD (power), D18 USB_GND (power), E5 HOST_VDD (power), E6 HOST_VDD (power), E7 HOST_VDD (power), E8 CORE_VDD (power), E9 CORE_VDD (power), E10 CORE_VDD (power), E11 CORE_VDD (power), E12 CORE_VDD (power), E13 CORE_VDD (power), E14 CORE_VDD (power), E17 USB_GND (power), F1 CLK_IN (in), F2 CLK_SEL (in), F3 PLL_VDD (power), F5 HOST_VDD (power), F14 USB_DVDD (power), F16 USB_GND (power), G1 GND (power), G2 GND (power), G3 GND (power), G5 GND (power), G7 GND (power), G8 GND (power), G9 GND (power), G10 GND (power), G11 GND (power), G12 GND (power), G14 USB_GND (power), G16 USB_GND (power), H1 DDR_VDD (power), H2 DDR_VDD (power), H3 DDR_VDD (power), H5 CORE_VDD (power), H7 GND (power), H9 GND (power), H10 GND (power), H12 GND (power), H14 USB_AVDD (power), H16 USB_AVDD (power), J3 DDR_VDD (power), J5 DDR_VDD (power), J7 GND (power), J8 GND (power), J9 GND (power), J10 GND (power), J11 GND (power), J12 GND (power), J14 GND (power), J16 USB_AVDD (power), J17 USB_AVDD (power), K5 DDR_VDD (power), K7 GND (power), K8 GND (power), K9 GND (power), K10 GND (power), K11 GND (power), K12 GND (power), K14 VID01_VDD (power), K16 HOST_CFG_0 (in), K17 CFG (in), K18 USB_AVDD (power), L5 DDR_VDD (power), L7 GND (power), L9 GND (power), L10 GND (power), L12 GND (power), L14 VID01_VDD (power), M5 DDR_VDD (power), M7 GND (power), M8 GND (power), M9 GND (power), M10 GND (power), M11 GND (power), M12 GND (power), M14 VID01_VDD (power), N5 DDR_VDD (power), N14 VID01_VDD (power), P5 DDR_VDD (power), P6 DDR_VDD (power), P7 DDR_VDD (power), P8 DDR_VDD (power), P9 CORE_VDD (power), P10 CORE_VDD (power), P11 CORE_VDD (power), P12 CORE_VDD (power), P13 CORE_VDD (power), P14 CORE_VDD (power), R16 RESET (in), T9 DDR_VDD (power), T10 DDR_VDD (power), T11 DDR_VDD (power), T12 GND (power), T13 CORE_VDD (power), T14 AUD_VDD (power), U11 DDR_VDD (power), U12 GND (power), U13 CORE_VDD (power), U14 AUD_VDD (power), V11 DDR_VDD (power), V12 GND (power), V13 CORE_VDD (power), V14 AUD_VDD (power)
part B pins: J1 DDR_A3 (out), J2 DDR_A2 (out), K1 DDR_A1 (out), K2 DDR_A0 (out), K3 DDR_A10 (out), L1 DDR_BA1 (out), L2 DDR_A5 (out), L3 DDR_BA0 (out), M1 DDR_A8 (out), M2 DDR_A4 (out), M3 DDR_A12 (out), N1 DDR_A7 (out), N2 DDR_A6 (out), N3 DDR_A11 (out), P1 DDR_A9 (out), P2 DDR_RAS (out), P3 DDR_CAS (out), R1 DDR_CS (out), R2 DDR_CKE (out), R3 DDR_WE (out), T1 DDR_DQ5 (io), T2 DDR_DQ7 (io), T3 DDR_VREF0 (in), T4 DDR_DQ6 (io), T5 DDR_DQ14 (io), T6 DDR_DQ9 (io), T7 DDR_VREF1 (in), T8 DDR_DQ13 (io), U1 DDR_DQ0 (io), U2 DDR_DQ4 (io), U3 DDR_DQS0 (io), U4 DDR_DQ2 (io), U5 DDR_DQ8 (io), U6 DDR_DQS1 (io), U7 DDR_DQ10 (io), U8 DDR_DQ12 (io), U9 DDR_CLK0 (out), U10 DDR_PADHI, V1 DDR_DQM0 (out), V2 DDR_DQ1 (io), V3 DDR_DQS0 (io), V4 DDR_DQ3 (io), V5 DDR_DQ15 (io), V6 DDR_DQS1 (io), V7 DDR_DQM1 (out), V8 DDR_DQ11 (io), V9 DDR_CLK0 (out), V10 DDR_PADLO
part C pins: A1 HOST_WE (in), A2 HOST_D1 (io), A3 HOST_D3 (io), A4 HOST_D6 (io), A5 HOST_D4 (io), A6 HOST_D9 (io), A7 HOST_D14 (io), A8 HOST_D12 (io), B1 HOST_RE (in), B2 HOST_D0 (io), B3 HOST_D7 (io), B4 HOST_D11 (io), B5 HOST_D5 (io), B6 HOST_D15 (io), B7 HOST_D8 (io), B8 HOST_D13 (io), C1 HOST_A5 (in), C2 HOST_DMARQ (out), C3 HOST_INT (out), C4 HOST_WAIT (out), C5 HOST_D2 (io), C7 HOST_D10 (io), D1 HOST_A3 (in), D2 HOST_A2 (in), D3 HOST_A6 (in), E1 HOST_CS0 (in), E2 HOST_A1 (in), E3 HOST_A4 (in)
part D pins: A15 VID2_D0 (io), A16 VID2_D2 (io), A17 VID2_D4 (io), A18 VID2_FIELD (io), B15 VID2_HSYNC (io), B16 VID2_VSYNC (io), B17 VID2_D6 (io), B18 VID2_D7 (io), C15 VID2_D3 (io), C16 VID2_D1 (io), C17 VID2_D5 (io), D17 VID2_PIXCLK (io), L16 VID0_VSYNC (in), L17 VID0_FIELD (in), L18 VID0_PIXCLK (io), M16 VID0_HSYNC (in), M17 VID0_D0 (in), M18 VID0_OUTCLK (out), N16 VID0_D1 (in), N17 VID0_D2 (in), N18 VID0_D3 (in), P16 VID0_D4 (in), P17 VID0_D5 (in), P18 VID0_D6 (in), R18 VID0_D7 (in)
part E pins: T15 AUD0_ODAT0 (out), T16 AUD0_SPDIF (out), U15 AUD0_LRCK (io), U16 AUD0_IDAT (in), V15 AUD0_MCLK (io), V16 AUD0_BCK (io)
part F pins: E18 USB_XIN, F17 USB_ANA_TST, F18 USB_XO, G17 USB_ID, G18 USB_VBUS, H17 USB_REXT, H18 USB_DM, J18 USB_DP
part G pins: A11 UARTD_TXD (out), A12 SPI_MCLK (io), A13 SPI_MSS1 (io), A14 SPI_MISO (io), B11 UARTD_RXD (in), B12 TWI0_SCL (io), B13 SPI_MOSI (io), B14 SPI_MSS0 (io), C11 TWI0_SDA (io)
part H pins: A9 GPIO_0 (io), A10 GPIO_2 (io), B9 GPIO_1 (io), B10 GPIO_3 (io), C9 PWM_0 (out), C18 GPIO_2_07 (io), D16 GPIO_2_08 (io), E16 GPIO_2_06 (io)
part I pins: R17 JTAG_TAP_SEL (in), T17 TEST (in), T18 JTAG_TRST (in), U17 JTAG_TDI (in), U18 JTAG_TDO (out), V17 JTAG_TCK (in), V18 JTAG_TMS (in)
part A text: Power Pins
part B text: DDR2 Interface
part C text: Host Interface
part D text: Video Interface
part E text: Audio Interface
part F text: USB
part G text: Serial Interfaces
part H text: GPIO
part I text: JTAG

## MC13135
designator IC?
FM Communications Receiver
footprint DIP24
pins: 1 1st LO Base, 2 1st LO Emitter, 3 1st LO Out, 4 VCC1 (power), 5 2nd LO Emitter, 6 2nd LO Base, 7 2nd LO Mixer Out, 8 GND (power), 9 Limiter In, 10 Decouple 1, 11 Decouple 2, 12 RSSI, 13 Quadcoil, 14 OpAmp In + (in), 15 OpAmp In - (in), 16 OpAmp Out (out), 17 Audio Out, 18 2nd Mixer In, 19 VCC2 (power), 20 1st Mixer Out, 21 1st Mixer In 2, 22 1st Mixer In 1, 23 Varicap A, 24 Varicap C

## MCP1700-1802
designator IC?, comment LDO  OUTPUT VOLTAGE: 1.8V
Low Dropout Regulator 1.8V 200mA; MAXIMUM INPUT VOLTAGE: 6V; OUTPUT CURRENT: 200mA; Supplier 1: Digi-Key; Supplier Part Number 1: MCP1700-1802E/TO-ND
pins: 1 (power), 2 IN (power), 3 OUT (power)
text: GND

## MCP6001T-I/LT
designator IC?  (value not drawn)
OpAmp; Supplier 1: Mouser; Supplier Part Number 1: 579-MCP6001T-I/LT
footprint SOT353; pin to pad GND>2 VCC>5
pins: 1, 3, 4, GND, VCC

## MCP73831
designator IC?
500mA Linear LiPo Charger; Regaulation Voltage: 4.2V; Note: not RoHS compliant; Current: 500mA; Digi-Key: MCP73831T-2DCI/OTCT-ND
footprint SOT-23-5
pins: 1 STAT (out), 2 GND (power), 3 VBAT (out), 4 VDD (power), 5 PROG (in)

## Micro USB
designator J?, comment USB
Micro USB Type B Receptacle; Digi-Key1: 609-4618-1-ND (horizontal); Digi-Key2: WM9734CT-ND (vertical)
footprint Micro USB Receptacle
footprint Micro USB Receptacle Vertical
pins: 1 VBUS (power), 2 D- (io), 3 D+ (io), 4 ID, 5 GND (power)

## MPU6050
designator IC?
9DOF Motion Processing Unit; Manufacturer: Invensense; Digi-Key: 1428-1007-1-ND
footprint LQFN24 (4x4mm)
pins: 1 CLKIN (in), 2 NC, 3 NC, 4 NC, 5 NC, 6 A_DA (io), 7 A_CL (out), 8 V-LOGIC (power), 9 AD0 (in), 10 REG-OUT, 11 FSYNC (in), 12 INT (out), 13 VDD (power), 14 NC, 15 NC, 16 NC, 17 NC, 18 GND (power), 19 RESV, 20 CPOUT, 21 RESV, 22 CLKOUT (out), 23 SCL (in), 24 SDA (io)

## MPU9150
designator IC?
9DOF Motion Processing Unit; Manufacturer: Invensense
footprint LQFN24 (4x4mm)
pins: 1 CLKIN (in), 2 NC, 3 VDD, 4 NC, 5 NC, 6 A_DA (io), 7 A_CL (out), 8 V-LOGIC (power), 9 AD0 (in), 10 REG-OUT, 11 FSYNC (in), 12 INT (out), 13 VDD (power), 14 NC, 15 GND (power), 16 NC, 17 GND (power), 18 GND (power), 19 NC, 20 CPOUT, 21 NC, 22 CLKOUT (out), 23 SCL (in), 24 SDA (io)

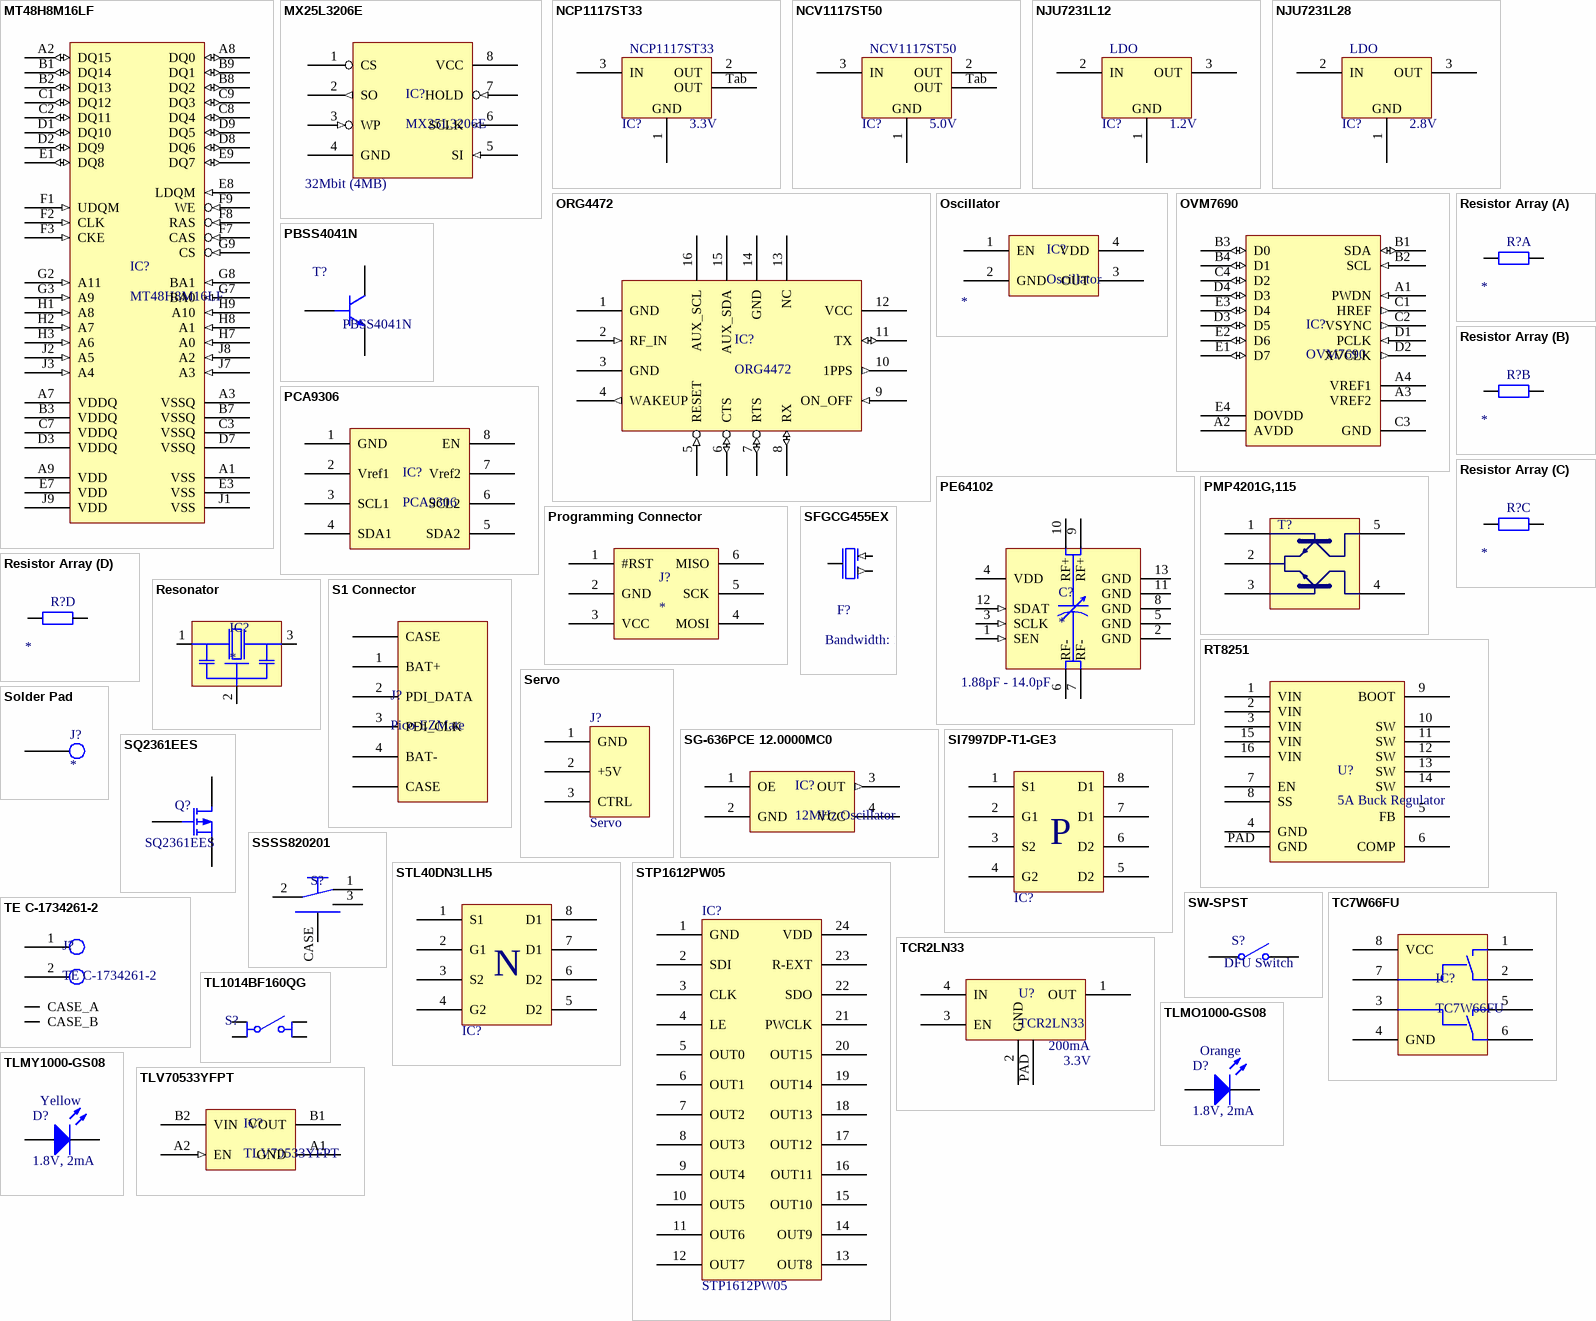
[diagram p4: symbols MT48H8M16LF to TLV70533YFPT]

## MT48H8M16LF
designator IC?
128Mb (8Mx16) SDRAM
footprint 54-VFBGA
pins: A1 VSS (power), A2 DQ15 (io), A3 VSSQ (power), A7 VDDQ (power), A8 DQ0 (io), A9 VDD (power), B1 DQ14 (io), B2 DQ13 (io), B3 VDDQ (power), B7 VSSQ (power), B8 DQ2 (io), B9 DQ1 (io), C1 DQ12 (io), C2 DQ11 (io), C3 VSSQ (power), C7 VDDQ (power), C8 DQ4 (io), C9 DQ3 (io), D1 DQ10 (io), D2 DQ9 (io), D3 VDDQ (power), D7 VSSQ (power), D8 DQ6 (io), D9 DQ5 (io), E1 DQ8 (io), E3 VSS (power), E7 VDD (power), E8 LDQM (in), E9 DQ7 (io), F1 UDQM (in), F2 CLK (in), F3 CKE (in), F7 CAS (in), F8 RAS (in), F9 WE (in), G2 A11 (in), G3 A9 (in), G7 BA0 (in), G8 BA1 (in), G9 CS (in), H1 A8 (in), H2 A7 (in), H3 A6 (in), H7 A0 (in), H8 A1 (in), H9 A10 (in), J1 VSS (power), J2 A5 (in), J3 A4 (in), J7 A3 (in), J8 A2 (in), J9 VDD (power)

## MX25L3206E
designator IC?  Capacity: 32Mbit (4MB)
Serial Flash Memory; Supplier 1: Digi-Key; Supplier Part Number 1: 1092-1058-ND
footprint USON 8L
pins: 1 CS, 2 SO (out), 3 WP (in), 4 GND (power), 5 SI (in), 6 SCLK (in), 7 HOLD (in), 8 VCC (power)

## NCP1117ST33
designator IC?  OUTPUT VOLTAGE: 3.3V
Low Dropout Regulator 3.3V 1A; MAXIMUM INPUT VOLTAGE: 20V; DROPOUT VOLTAGE: 1.2V; Supplier 1: Mouser; OUTPUT CURRENT: 1A; Supplier Part Number 1: 863-NCP1117ST33T3G
footprint SOT223_M (SOT223, 4-Leads, Body 6.5x3.5mm, Pitch 2.3mm, Lead Span 7mm, IPC Low Density); pin to pad Tab>4
pins: 1 (power), 2 OUT (power), 3 IN (power), Tab OUT (power)
text: GND

## NCV1117ST50
designator IC?  OUTPUT VOLTAGE: 5.0V
Low Dropout Regulator 5.0V 1A; MAXIMUM INPUT VOLTAGE: 20V; DROPOUT VOLTAGE: 1.2V; Supplier 1: Mouser; OUTPUT CURRENT: 1A; Supplier Part Number 1: 863-NCP1117ST50T3G
footprint SOT223_L (SOT223, 4-Leads, Body 6.5x3.5mm, Pitch 2.3mm, Lead Span 7mm, IPC High Density); pin to pad Tab>4
footprint SOT223_M (SOT223, 4-Leads, Body 6.5x3.5mm, Pitch 2.3mm, Lead Span 7mm, IPC Low Density); pin to pad Tab>4
pins: 1 (power), 2 OUT (power), 3 IN (power), Tab OUT (power)
text: GND

## NJU7231L12
designator IC?, comment LDO  OUTPUT VOLTAGE: 1.2V
Low Dropout Regulator 1.2V 100mA; MAXIMUM INPUT VOLTAGE: 18V; OUTPUT CURRENT: 100mA; Supplier 1: Digi-Key; Supplier Part Number 1: NJU7231L12-ND
pins: 1 (power), 2 IN (power), 3 OUT (power)
text: GND

## NJU7231L28
designator IC?, comment LDO  OUTPUT VOLTAGE: 2.8V
Low Dropout Regulator 2.8V 100mA; MAXIMUM INPUT VOLTAGE: 18V; OUTPUT CURRENT: 100mA; Supplier 1: Digi-Key; Supplier Part Number 1: NJU7231L28-ND
pins: 1 (power), 2 IN (power), 3 OUT (power)
text: GND

## ORG4472
designator IC?
GPS Module
footprint ORG4472
pins: 1 GND (power), 2 RF_IN (in), 3 GND (power), 4 WAKEUP (out), 5 RESET (in), 6 CTS (io), 7 RTS (io), 8 RX (io), 9 ON_OFF (in), 10 1PPS (out), 11 TX (io), 12 VCC (power), 13 NC, 14 GND (power), 15 AUX_SDA, 16 AUX_SCL

## Oscillator
designator IC?
Frequency: *
footprint DFN4
pins: 1 EN, 2 GND, 3 OUT, 4 VDD

## OVM7690
designator IC?
VGA Camera
footprint OVM7690
pins: A1 PWDN (in), A2 AVDD (power), A3 VREF2, A4 VREF1, B1 SDA (io), B2 SCL (in), B3 D0 (io), B4 D1 (io), C1 HREF (out), C2 VSYNC (out), C3 GND (power), C4 D2 (io), D1 PCLK (in), D2 XVCLK (out), D3 D5 (io), D4 D3 (io), E1 D7 (io), E2 D6 (io), E3 D4 (io), E4 DOVDD (power)

## PBSS4041N
designator T?
NPN Transistor; Current: 3.8A
footprint SOT23
pins: 1, 2, 3

## PCA9306
designator IC?
Dual Bidirectional I²C Bus Voltage Level Translator; Vref1: 1.2V-3.3V; Vref2: 1.8V-5V; Note: Vref1 < Vref2
footprint US8
pins: 1 GND, 2 Vref1, 3 SCL1, 4 SDA1, 5 SDA2, 6 SCL2, 7 Vref2, 8 EN

## PE64102
designator C?  Capacity: 1.88pF - 14.0pF
Digitally Tunable Capacitor; VDD: 2.3V - 3.6V; Resolution: 32 Steps, 391fF; Digi-Key: 1046-1066-1-ND
footprint QFN-12 (2x2mm)
pins: 1 SEN (in), 2 GND, 3 SCLK (in), 4 VDD (power), 5 GND (power), 6 RF-, 7 RF-, 8 GND (power), 9 RF+, 10 RF+, 11 GND (power), 12 SDAT (in), 13 GND (power)

## PMP4201G,115
designator T?  (value not drawn)
Dual NPN Transistor; Supplier 1: Mouser; Supplier Part Number 1: 771-PMP4201G115
footprint SOT353
pins: 1, 2, 3, 4, 5

## Programming Connector
designator J?
6-Pin ISP Solder Pad Array
footprint 3x2 Solder Pad Array
pins: 1 #RST, 2 GND, 3 VCC, 4 MOSI, 5 SCK, 6 MISO

## Resistor Array
designator R?  (value not drawn)
4x Resistor Array; Tolerance: *; Value: *
footprint RESISTOR-ARRAY
part A pins: A1 1, A2 1
part B pins: B1 1, B2 1
part C pins: C1 1, C2 1
part D pins: D1 1, D2 1

## Resonator
designator IC?
footprint 3-SMD
pins: 1, 2 3, 3 2

## RT8251
designator U?, comment 5A Buck Regulator
Input Voltage: 4.75V - 24V; Output Voltage: 0.8V - 15V; Switching Frequency: 570kHz; Max Current (Continuous): 5A
footprint WQFN-16 (3mm x 3mm)
pins: 1 VIN (power), 2 VIN (power), 3 VIN (power), 4 GND (power), 5 FB, 6 COMP, 7 EN, 8 SS, 9 BOOT, 10 SW, 11 SW, 12 SW, 13 SW, 14 SW, 15 VIN, 16 VIN, PAD GND (power)

## S1 Connector
designator J?, comment Pico-EZMate
Programming & Charging Connector for S1; Digi-Key: WM4460CT-ND; Plug with Harness (Digi-Key): WM9591-ND; Plug (Digi-Key): WM4362-ND; Pins for Plug (Digi-Key): WM3992CT-ND
footprint Pico-EZMate (4Pin)
pins: 0a CASE, 0b CASE, 1 BAT+, 2 PDI_DATA, 3 PDI_CLK, 4 BAT-

## Servo
designator J?
Servo Connector
footprint 3PIN-CONNECTOR
pins: 1 GND, 2 +5V, 3 CTRL

## SFGCG455EX
designator F?  Bandwidth: 12kHz  (hidden comment: SFGCG455EX)
Ceramic Filter 455kHz; Impedance: 1.5 kOhm; Order: http://www.rf-microwave.com/catalogo/eng/M.pdf
footprint Ceramic Filter
pins: 1 IN (in), 2 OUT (out), 3 GND

## SG-636PCE 12.0000MC0
designator IC?, comment 12MHz Oscillator
footprint SG-636PCE
pins: 1 OE, 2 GND (power), 3 OUT (out), 4 VCC (power)

## SI7997DP-T1-GE3
designator IC?  (value not drawn)
Dual P-Channel MOSFET; CONTINUOUS DRAIN CURRENT: 25°C: 20.8A/60A, 75°C: 16.6A/60A; GATE THRESHOLD VOLTAGE: -1.0V/-2.2V; RISE/FALL TIME: 50ns/40ns; Supplier 1: Mouser; Supplier Part Number 1: 781-SI7997DP-T1-GE3
footprint PowerFlat
pins: 1 S1, 2 G1, 3 S2, 4 G2, 5 D2, 6 D2, 7 D1, 8 D1
text: P

## Solder Pad
designator J?
Solder Pad 2.5mm x 2.5mm
footprint 2MM x 2mm SOLDERPAD
pins: 1

## SQ2361EES
designator Q?
MOSFET P-Channel; Published: 8-Jun-2000; LatestRevisionDate: 17-Jul-2002; LatestRevisionNote: Re-released for DXP Platform.; PackageVersion: 1995/1996; PackageReference: E3; Publisher: Altium Limited; PackageDescription: TO, Flat Index; 3 In-Line, Axial Leads; Body Dia. 4.6mm; Lead Dia. 0.5 mm (max); Supplier 1: Mouser; Supplier Part Number 1: 781-SQ2361EES-T1-GE3
simulation model PMOS (MOSFET-P)
footprint SOT23_M (SOT23, 3-Leads, Body 2.9x1.3mm, Pitch 0.95mm, Lead Span 2.3mm - Reverse Pinning, IPC Low Density); pin to pad 2>3 3>2
pins: 1 D, 2 G, 3 S

## SSSS820201
designator S?  (value not drawn)
Micro Switch
footprint Mini Switch
pins: 1, 2, 3, CASE 3

## STL40DN3LLH5
designator IC?  (value not drawn)
Dual N-Channel MOSFET; CONTINOUS DRAIN CURRENT: 25°C: 11A/40A, 100°C: 7A/26A; GATE THRESHOLD VOLTAGE: 1.5V; RISE/FALL TIME: 22ns/2.8ns; Supplier 1: Mouser; Supplier Part Number 1: 511-STL40DN3LLH5
footprint PowerFlat
pins: 1 S1, 2 G1, 3 S2, 4 G2, 5 D2, 6 D2, 7 D1, 8 D1
text: N

## STP1612PW05
designator IC?
16 Channel 16-Bit PWM LED Driver; Supplier 1: Mouser; Supplier Part Number 1: 511-STP1612PW05XTTR
footprint TSSOP24
pins: 1 GND, 2 SDI, 3 CLK, 4 LE, 5 OUT0, 6 OUT1, 7 OUT2, 8 OUT3, 9 OUT4, 10 OUT5, 11 OUT6, 12 OUT7, 13 OUT8, 14 OUT9, 15 OUT10, 16 OUT11, 17 OUT12, 18 OUT13, 19 OUT14, 20 OUT15, 21 PWCLK, 22 SDO, 23 R-EXT, 24 VDD

## SW-SPST
designator S?, comment DFU Switch
Single-Pole, Single-Throw Switch; Published: 24-Mar-1999; LatestRevisionDate: 17-Jul-2002; LatestRevisionNote: Re-released for DXP Platform.; PackageReference: SPST-2; Publisher: Altium Limited; PackageDescription: Switch; 2 Leads; Supplier 1: Mouser; Supplier Part Number 1: 611-KMT221NGHFLFS
footprint SWITCH
pins: 1 COMMON, 2 NO

## TC7W66FU
designator IC?
CMOS Digital Dual Bilateral Switch; Voltage: 2V...12V; Digi-Key: TC7W66FUTFCT-ND
footprint SOP8 (2.8mm)
pins: 1 SIG1, 2 SIG1, 3 CTRL2, 4 GND, 5 SIG2, 6 SIG2, 7 CTRL1, 8 VCC

## TCR2LN33
designator U?  Current: 200mA  Output Voltage: 3.3V
Low Dropout Regulator 3.3V, 200mA; Manufacturer: Toshiba; Input Voltage: 3.5V...5.5V; Digi-Key: TCR2LN33LFCT-ND
footprint SDFN-4 (0.8mm x 0.8mm)
pins: 1 OUT (power), 2 GND (power), 3 EN, 4 IN (power), PAD

## TE C-1734261-2
designator J?
TE Connector 2-Pos 1.25mm Pitch
footprint Conn 2-Pos 1.25mm
pins: 1, 2, CASE_A, CASE_B

## TL1014BF160QG
designator S?  (value not drawn)
Tactile Switch, Right Angle; Digi-Key: EG5042CT-ND
footprint Switch Right Angle
pins: 1, 2, 3, 4

## TLMO1000-GS08
designator D?  Color: Orange  specs: 1.8V, 2mA  (hidden comment: TLMO1000-GS08)
LED Orange SMD 0603; Published: 8-Jun-2000; LatestRevisionDate: 17-Jul-2002; LatestRevisionNote: Re-released for DXP Platform.; PackageVersion: Feb-2002; PackageReference: 3.2X1.6X1.1; Publisher: Altium Limited; PackageDescription: SM LED; 2 Flat Leads; Supplier 1: Mouser; Supplier Part Number 1: 78-TLMO1000
footprint 3.2X1.6X1.1 (SMT LED; 2 Flat Leads)
simulation model LED2 (Diode)
footprint 0603 (LED); pin to pad 1>A 2>K
pins: 1 A, 2 K

## TLMY1000-GS08
designator D?  Color: Yellow  specs: 1.8V, 2mA  (hidden comment: TLMY1000-GS08)
LED Yellow SMD 0603; Published: 8-Jun-2000; LatestRevisionDate: 17-Jul-2002; LatestRevisionNote: Re-released for DXP Platform.; PackageVersion: Feb-2002; PackageReference: 3.2X1.6X1.1; Publisher: Altium Limited; PackageDescription: SM LED; 2 Flat Leads; Supplier 1: Mouser; Supplier Part Number 1: 78-TLMY1000
footprint 3.2X1.6X1.1 (SMT LED; 2 Flat Leads)
simulation model LED2 (Diode)
footprint 0603 (LED); pin to pad 1>A 2>K
pins: 1 A, 2 K

## TLV70533YFPT
designator IC?
Current: 200mA; Supplier 1: Digi-Key; Supplier Part Number 1: 296-30172-1-ND
footprint 0.8-mm × 0.8-mm WCSP
pins: A1 GND, A2 EN (in), B1 VOUT (power), B2 VIN (power)

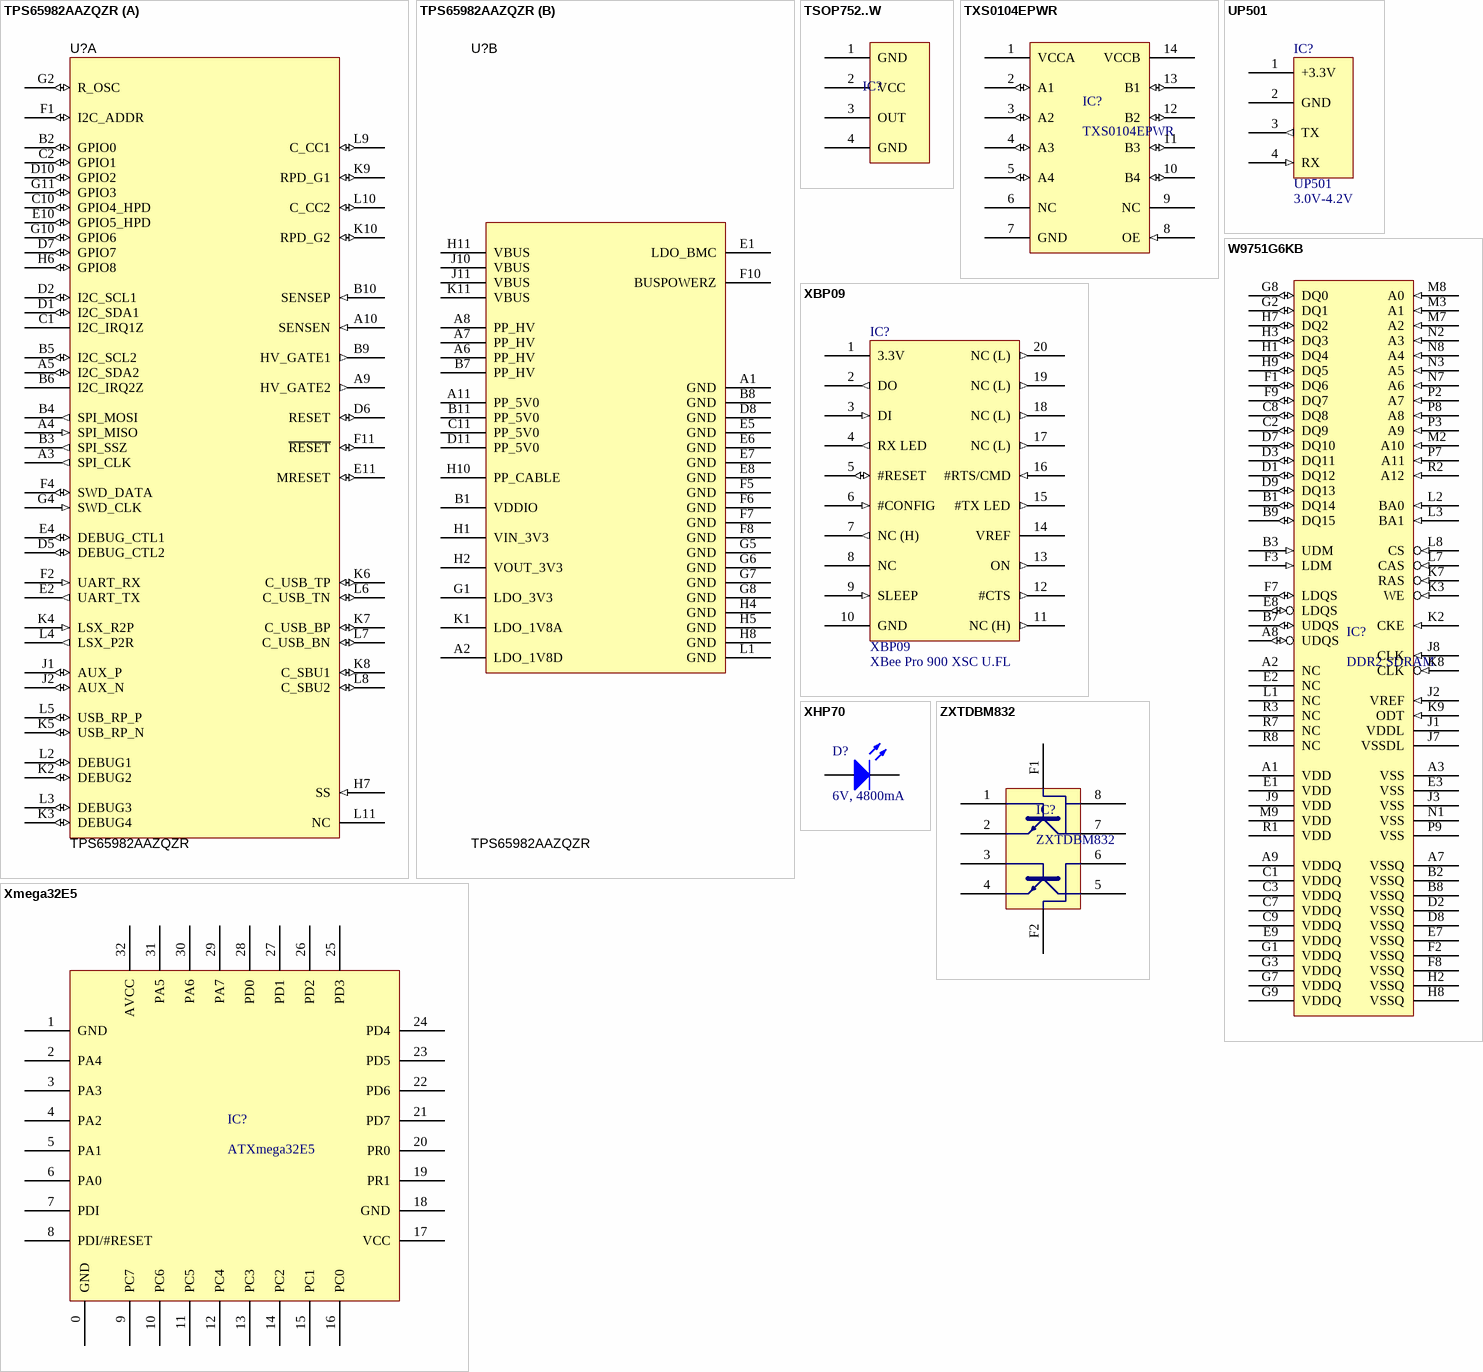
[diagram p5: symbols TPS65982AAZQZR to ZXTDBM832]

## TPS65982AAZQZR
designator U?
TPS65982 Preview Specification, ZQZ0096A; Manufacturer: Texas Instruments; SymbolCreator: Altium; CompType: IC; U/M: EA; SymbolVersion: 2015-01-26; PartNumber: TPS65982AAZQZR; PackageReference: ZQZ0096A; MountType: SMT; ComponentLink1Description: Datasheet Link; ComponentLink1URL: https://sps06.itg.ti.com/sites/KMS/crossdivteams/altium/docs/ComponentDatasheets/TPS65982_specification_0p94_Mechanical-ONLY.pdf; Publisher: Texas Instruments; LatestRevisionDate: 2015-03-08; Alternate Manufacturer: Texas Instruments
footprint ZQZ0096A
footprint ZQZ0096A_Oval
part A pins: A3 SPI_CLK (out), A4 SPI_MISO (in), A5 I2C_SDA2 (io), A9 HV_GATE2 (out), A10 SENSEN (in), B2 GPIO0 (io), B3 SPI_SSZ (out), B4 SPI_MOSI (out), B5 I2C_SCL2 (io), B6 I2C_IRQ2Z (oc), B9 HV_GATE1 (out), B10 SENSEP (in), C1 I2C_IRQ1Z (oc), C2 GPIO1 (io), C10 GPIO4_HPD (io), D1 I2C_SDA1 (io), D2 I2C_SCL1 (io), D5 DEBUG_CTL2 (io), D6 RESET (io), D7 GPIO7 (io), D10 GPIO2 (io), E2 UART_TX (out), E4 DEBUG_CTL1 (io), E10 GPIO5_HPD (io), E11 MRESET (io), F1 I2C_ADDR (io), F2 UART_RX (in), F4 SWD_DATA (io), F11 ~{RESET} (io), G2 R_OSC (io), G4 SWD_CLK (in), G10 GPIO6 (io), G11 GPIO3 (io), H6 GPIO8 (io), H7 SS (in), J1 AUX_P (io), J2 AUX_N (io), K2 DEBUG2 (io), K3 DEBUG4 (io), K4 LSX_R2P (in), K5 USB_RP_N (io), K6 C_USB_TP (io), K7 C_USB_BP (io), K8 C_SBU1 (io), K9 RPD_G1 (io), K10 RPD_G2 (io), L2 DEBUG1 (io), L3 DEBUG3 (io), L4 LSX_P2R (out), L5 USB_RP_P (io), L6 C_USB_TN (io), L7 C_USB_BN (io), L8 C_SBU2 (io), L9 C_CC1 (io), L10 C_CC2 (io), L11 NC
part B pins: A1 GND (power), A2 LDO_1V8D (power), A6 PP_HV (power), A7 PP_HV (power), A8 PP_HV (power), A11 PP_5V0 (power), B1 VDDIO (power), B7 PP_HV (power), B8 GND (power), B11 PP_5V0 (power), C11 PP_5V0 (power), D8 GND (power), D11 PP_5V0 (power), E1 LDO_BMC (power), E5 GND (power), E6 GND (power), E7 GND (power), E8 GND (power), F5 GND (power), F6 GND (power), F7 GND (power), F8 GND (power), F10 BUSPOWERZ (power), G1 LDO_3V3 (power), G5 GND (power), G6 GND (power), G7 GND (power), G8 GND (power), H1 VIN_3V3 (power), H2 VOUT_3V3 (power), H4 GND (power), H5 GND (power), H8 GND (power), H10 PP_CABLE (power), H11 VBUS (power), J10 VBUS (power), J11 VBUS (power), K1 LDO_1V8A (power), K11 VBUS (power), L1 GND (power)
1 alternate drawing of the same symbol

## TSOP752..W
designator IC?  (value not drawn)
IR Receiver 40kHz
footprint TSOP752..W
footprint TSOP752..W - SideView
pins: 1 GND, 2 VCC, 3 OUT, 4 GND

## TXS0104EPWR
designator IC?
Level Shifter 5V <-> 3.3V
footprint TSSOP14
pins: 1 VCCA (power), 2 A1 (io), 3 A2 (io), 4 A3 (io), 5 A4 (io), 6 NC, 7 GND, 8 OE (in), 9 NC, 10 B4 (io), 11 B3 (io), 12 B2 (io), 13 B1 (io), 14 VCCB (power)

## UP501
designator IC?  OPERATING VOLTAGE: 3.0V-4.2V
GPS Module; Supplier 1: Mouser; Supplier Part Number 1: 916-UP501
footprint UP501 (external); pin to pad 1>A1 2>A2 3>A3 4>A4
pins: 1 +3.3V, 2 GND (power), 3 TX (out), 4 RX (in)

## W9751G6KB
designator IC?, comment DDR2 SDRAM
footprint WBGA-84
pins: A1 VDD (power), A2 NC, A3 VSS (power), A7 VSSQ (power), A8 UDQS (io), A9 VDDQ (power), B1 DQ14 (io), B2 VSSQ (power), B3 UDM (in), B7 UDQS (io), B8 VSSQ (power), B9 DQ15 (io), C1 VDDQ (power), C2 DQ9 (io), C3 VDDQ (power), C7 VDDQ (power), C8 DQ8 (io), C9 VDDQ (power), D1 DQ12 (io), D2 VSSQ (power), D3 DQ11 (io), D7 DQ10 (io), D8 VSSQ (power), D9 DQ13 (io), E1 VDD (power), E2 NC, E3 VSS (power), E7 VSSQ (power), E8 LDQS (io), E9 VDDQ (power), F1 DQ6 (io), F2 VSSQ (power), F3 LDM (in), F7 LDQS (io), F8 VSSQ (power), F9 DQ7 (io), G1 VDDQ (power), G2 DQ1 (io), G3 VDDQ (power), G7 VDDQ (power), G8 DQ0 (io), G9 VDDQ (power), H1 DQ4 (io), H2 VSSQ (power), H3 DQ3 (io), H7 DQ2 (io), H8 VSSQ (power), H9 DQ5 (io), J1 VDDL (power), J2 VREF (in), J3 VSS (power), J7 VSSDL (power), J8 CLK (in), J9 VDD (power), K2 CKE (in), K3 WE (in), K7 RAS (in), K8 CLK (in), K9 ODT (in), L1 NC, L2 BA0 (in), L3 BA1 (in), L7 CAS (in), L8 CS (in), M2 A10 (in), M3 A1 (in), M7 A2 (in), M8 A0 (in), M9 VDD (power), N1 VSS (power), N2 A3 (in), N3 A5 (in), N7 A6 (in), N8 A4 (in), P2 A7 (in), P3 A9 (in), P7 A11 (in), P8 A8 (in), P9 VSS (power), R1 VDD (power), R2 A12 (in), R3 NC, R7 NC, R8 NC

## XBP09
designator IC?  PART NUMBER: XBee Pro 900 XSC U.FL
XBee-PRO XSC 900MHz Radio Module; Supplier 1: Digi-Key; Supplier Part Number 1: 602-1132-ND
footprint XBEE-PRO
pins: 1 3.3V (power), 2 DO (out), 3 DI (in), 4 RX LED (out), 5 #RESET (io), 6 #CONFIG (in), 7 NC (H) (out), 8 NC, 9 SLEEP (in), 10 GND (power), 11 NC (H) (out), 12 #CTS (out), 13 ON (out), 14 VREF (power) "not used, connect to ground", 15 #TX LED (out), 16 #RTS/CMD (in), 17 NC (L) (out), 18 NC (L) (out), 19 NC (L) (out), 20 NC (L) (out)

## XHP70
designator D?  specs: 6V, 4800mA  (hidden comment: XHP70)
High Power LED; Color: White; Supplier 1: Digi-Key; Supplier Part Number 1: XHP70A-01-0000-0D0BN20E1CT-ND
footprint XHP70 6V Pad
footprint XHP70 6V Slot
pins: 1 A, 2 K

## Xmega32E5
designator IC?, comment ATXmega32E5
8-Bit AVR Microcontroller; Manufacturer: Atmel; Flash: 32kB; RAM: 4kB; EEPROM: 1kB; Speed: 32MHz; Digi-Key: ATXMEGA32E5-MU-ND
footprint QFN-32 (5x5mm)
pins: 0 GND (power), 1 GND (power), 2 PA4, 3 PA3, 4 PA2, 5 PA1, 6 PA0, 7 PDI, 8 PDI/#RESET, 9 PC7, 10 PC6, 11 PC5, 12 PC4, 13 PC3, 14 PC2, 15 PC1, 16 PC0, 17 VCC (power), 18 GND (power), 19 PR1, 20 PR0, 21 PD7, 22 PD6, 23 PD5, 24 PD4, 25 PD3, 26 PD2, 27 PD1, 28 PD0, 29 PA7, 30 PA6, 31 PA5, 32 AVCC (power)

## ZXTDBM832
designator IC?
footprint MLP8
pins: 1, 2, 3, 4, 5, 6, 7, 8, F1, F2